# Altium schematic symbol library texas.SCHLIB: 169 symbols (part 4 of 5)
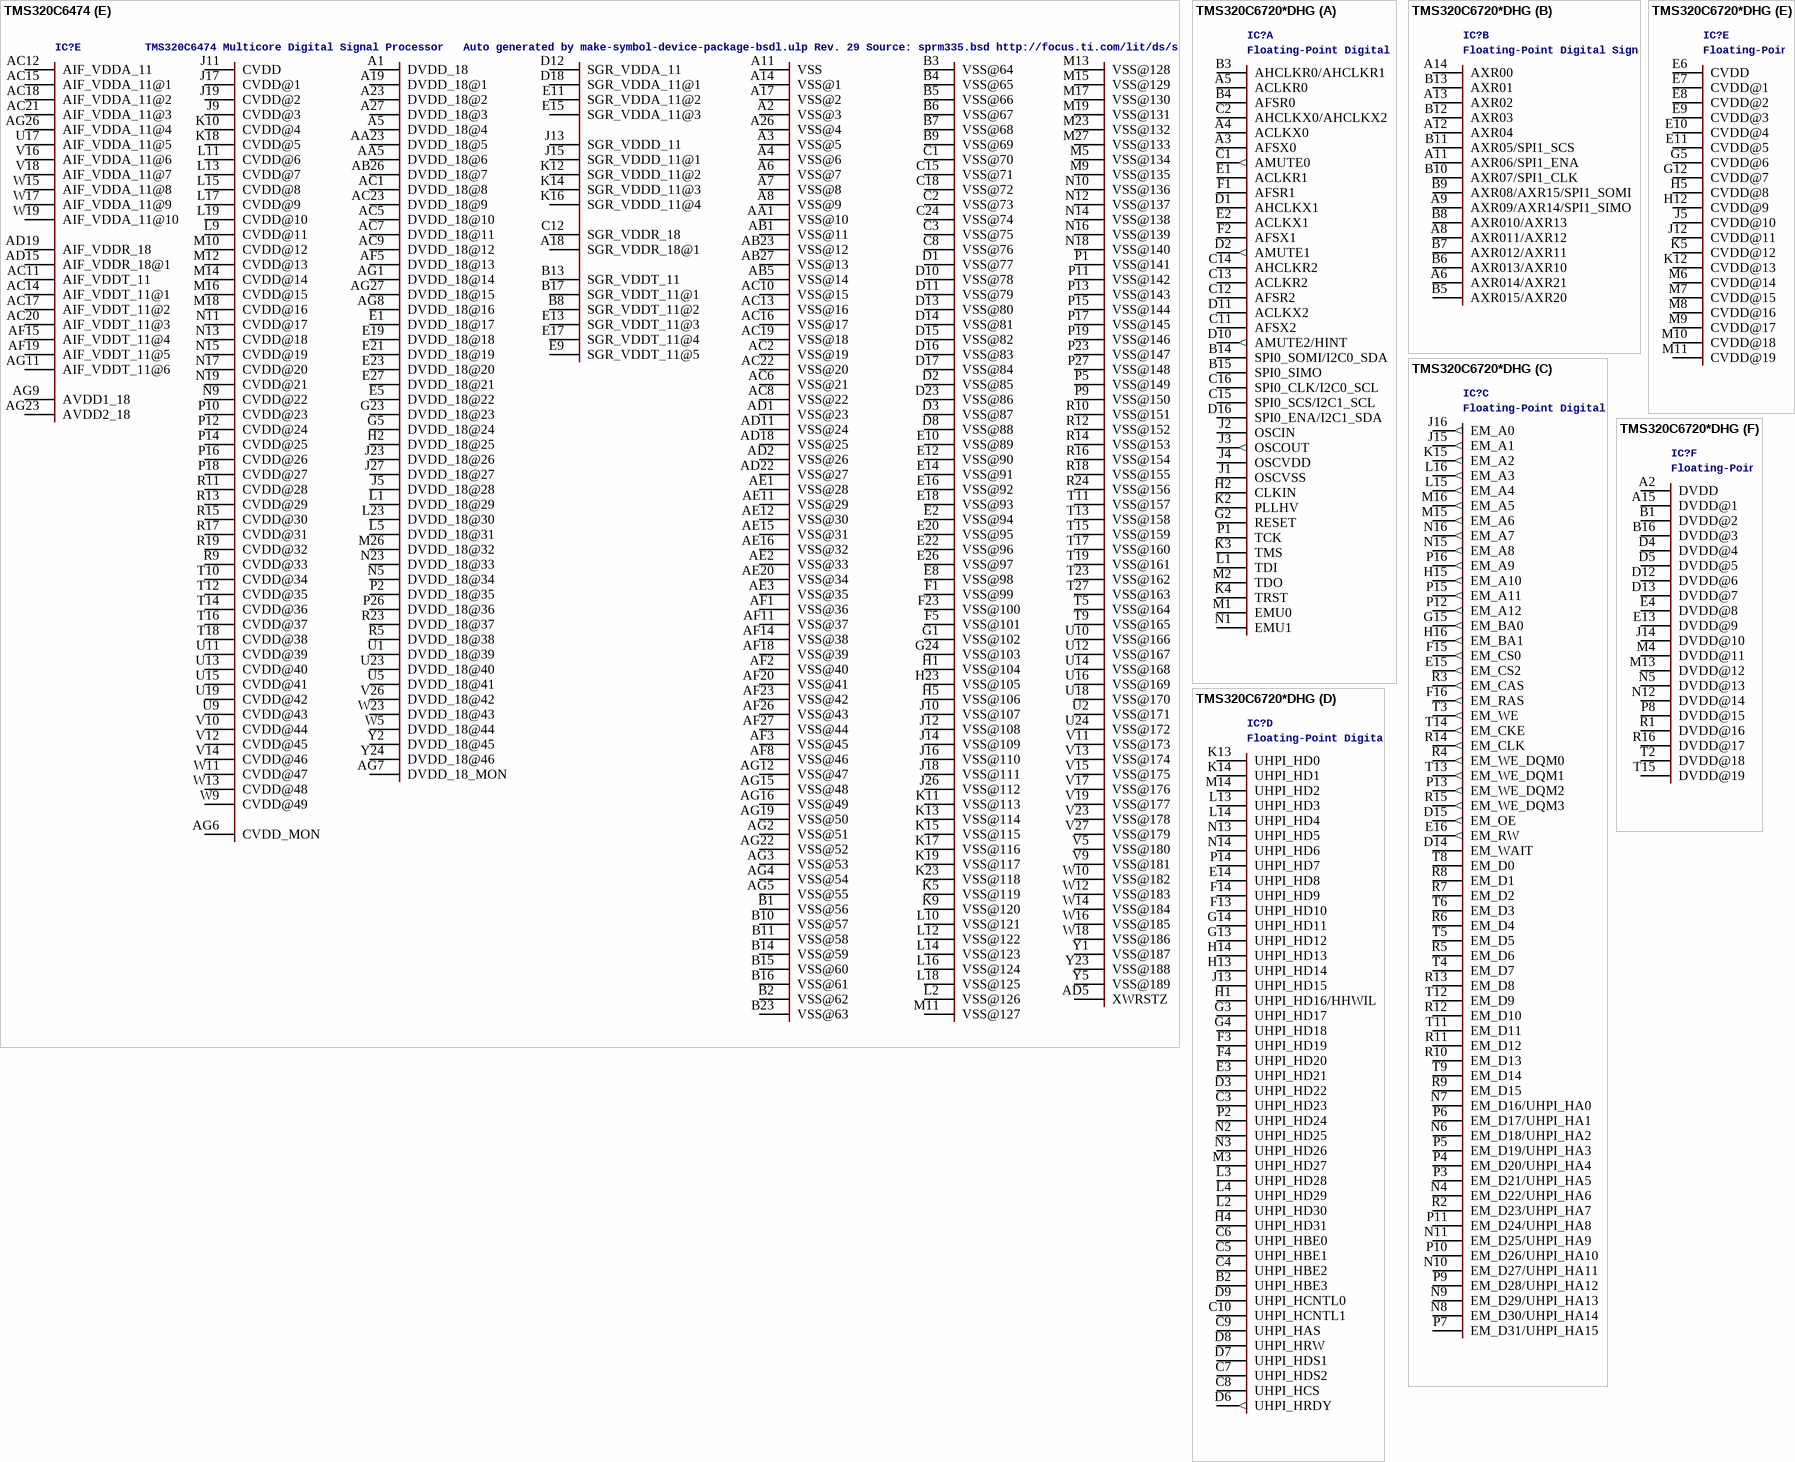
[diagram p30: symbols TMS320C6474 to TMS320C6720*DHG]

## TMS320C6474
designator IC?, comment TMS320C6474 Multicore Digital Signal Processor   Auto generated by make-symbol-device-package-bsdl.ulp Rev. 29 Source: sprm335.bsd http://focus.ti.com/lit/ds/symlink/tms320c6474.pdf Connect-List generated from TMS320C6474.DEV Variant '' with connect-device-split-symbol-03.ulp
OC_FARNELL: 1791956; OC_NEWARK: unknown
footprint ZUN_SPBGA-N561
part A pins: AD12 AIFTXP5, AD13 AIFTXN5, AD16 AIFTXP3, AD17 AIFTXN3, AD20 AIFTXP1, AD21 AIFTXN1, AE6 ALTFSYNCPULSE, AE13 AIFRXP4, AE14 AIFRXN4, AE17 AIFRXN3, AE18 AIFRXP3, AE21 AIFTXN0, AE22 AIFTXP0, AF6 ALTFSYNCCLK, AF9 ALTCORECLKP, AF10 ALTCORECLKN, AF12 AIFRXN5, AF13 AIFRXP5, AF16 AIFTXN2, AF17 AIFTXP2, AF21 AIFRXP0, AF22 AIFRXN0, AG13 AIFTXN4, AG14 AIFTXP4, AG17 AIFRXP2, AG18 AIFRXN2, AG20 AIFRXN1, AG21 AIFRXP1
part B pins: A20 DR0, A24 CLKR1, A25 CLKS1, AA24 DDRD07, AA25 DDRD06, AA26 DDRD05, AA27 DDRD04, AB24 DDRRCVENOUT0, AB25 DDRRCVENIN0, AC24 DDRD12, AC25 DDRD10, AC26 DDRD09, AC27 DDRD08, AD23 DDRREFCLKN, AD24 DDRREFCLKP, AD25 DDRDQS1N, AD26 DDRDQS1P, AD27 DDRD11, AE23 DDRSLRATE, AE24 DDRDQM1, AE25 DDRD15, AE26 DDRD13, AE27 DDRD14, AF7 CORECLKSEL, B20 CLKR0, B22 DX1, B24 DDRDQM2, B25 DDRD16, B26 DDRD18, B27 DDRD20, C20 CLKX0, C22 CLKX1, C25 DDRDQS2N, C26 DDRDQS2P, C27 DDRD23, D19 DX0, D20 CLKS0, D21 DR1, D24 DDRD19, D25 DDRD17, D26 DDRD21, D27 DDRD22, E24 DDRRCVENIN1, E25 DDRRCVENOUT1, F24 DDRD24, F25 DDRD25, F26 DDRD26, F27 DDRD27, G25 DDRDQS3P, G26 DDRDQS3N, G27 DDRD28, H24 DDRDQM3, H25 DDRD29, H26 DDRD30, H27 DDRD31, J24 DDRCLKOUTN1, J25 DDRCLKOUTP1, K24 DDRODT, K25 DDRA00, K26 DDRA08, K27 DDRA13, L24 DDRCEZ, L25 DDRA04, L26 DDRA06, L27 DDRA11, M24 DDRRASZ, M25 DDRA02, N25 DDRA01, N26 DDRCASZ, N27 DDRA05, P24 DDRWEZ, P25 DDRA10, R25 DDRBA1, R26 DDRA03, R27 DDRA09, T24 DDRCKE, T25 DDRBA0, U25 DDRBA2, U26 DDRA07, U27 DDRA12, V24 DDRCLKOUTN0, V25 DDRCLKOUTP0, W24 DDRDQM0, W25 DDRD01, W26 DDRD03, W27 DDRD00, Y25 DDRDQS0N, Y26 DDRDQS0P, Y27 DDRD02
part C pins: A21 FSX0, A22 FSX1, AA2 GP09, AA3 GP10, AA4 GP14, AB2 GP13, AB3 GP12, AB4 GP11, AC3 GP15, AD7 FSYNCCLKP, AD8 FSYNCCLKN, AD9 FRAMEBURSTP, AD10 FRAMEBURSTN, B19 MDIO, B21 FSR0, C19 MDCLK, C21 FSR1, J1 NMI2, J2 NMI1, J4 NMI0, K2 EMU14, L3 EMU12, L4 EMU17, M1 EMU05, M2 EMU04, M3 EMU18, M4 EMU08, N1 EMU03, N2 EMU09, N3 EMU02, N4 EMU06, P3 EMU16, P4 EMU13, R1 EMU10, R2 EMU01, R3 EMU07, R4 EMU00, T1 EMU15, T2 EMU11, T3 GP00, T4 GP04, U3 GP03, U4 GP01, V1 GP02, V2 GP05, V3 GP06, Y3 GP07, Y4 GP08
part D pins: A9 RIORXN0, A10 RIORXP0, A12 RIORXP1, A13 RIORXN1, A15 SGMIITXP, A16 SGMIITXN, AC4 TRTCLK, AD3 TRT, AD4 SMFRAMECLK, AD6 SYSCLKOUT, AD14 RSV02, AE4 RSV23, AE5 PORZ, AE7 RSV06, AE8 RSV07, AE9 SYSCLKP, AE10 SYSCLKN, AE19 RSV01, AF4 RESETSTATZ, AF24 RSV08, AF25 RSV09, AG10 RSV04, AG24 RSV05, AG25 RSV24, B12 RSV17, B18 RSV18, C4 TIMI1, C5 RSV28, C6 RSV20, C7 RSV16, C9 RIOSGMIICLKP, C10 RIOTXP0, C11 RIOTXN0, C13 RIOTXN1, C14 RIOTXP1, C16 SGMIIRXN, C17 SGMIIRXP, C23 RSV26, D4 SDA, D5 RSV27, D6 RSV19, D7 RSV15, D9 RIOSGMIICLKN, D22 RSV25, E3 TIMI0, E4 SCL, E6 RSV21, E7 RSV22, F2 TIMO0, F3 RSV14, F4 TIMO1, G2 VCNTL1, G3 VCNTL0, G4 RSV13, H3 VCNTL3, H4 VCNTL2, J3 RSV29, K1 RSV12, K3 RSV11, K4 RSV10, N24 RSV03, T26 VREFSSTL, V4 TDI, W1 TMS, W2 TRSTZ, W3 TDO, W4 TCK
part E pins: A1 DVDD_18, A2 VSS@3, A3 VSS@5, A4 VSS@6, A5 DVDD_18@4, A6 VSS@7, A7 VSS@8, A8 VSS@9, A11 VSS, A14 VSS@1, A17 VSS@2, A18 SGR_VDDR_18@1, A19 DVDD_18@1, A23 DVDD_18@2, A26 VSS@4, A27 DVDD_18@3, AA1 VSS@10, AA5 DVDD_18@6, AA23 DVDD_18@5, AB1 VSS@11, AB5 VSS@14, AB23 VSS@12, AB26 DVDD_18@7, AB27 VSS@13, AC1 DVDD_18@8, AC2 VSS@19, AC5 DVDD_18@10, AC6 VSS@21, AC7 DVDD_18@11, AC8 VSS@22, AC9 DVDD_18@12, AC10 VSS@15, AC11 AIF_VDDT_11, AC12 AIF_VDDA_11, AC13 VSS@16, AC14 AIF_VDDT_11@1, AC15 AIF_VDDA_11@1, AC16 VSS@17, AC17 AIF_VDDT_11@2, AC18 AIF_VDDA_11@2, AC19 VSS@18, AC20 AIF_VDDT_11@3, AC21 AIF_VDDA_11@3, AC22 VSS@20, AC23 DVDD_18@9, AD1 VSS@23, AD2 VSS@26, AD5 XWRSTZ, AD11 VSS@24, AD15 AIF_VDDR_18@1, AD18 VSS@25, AD19 AIF_VDDR_18, AD22 VSS@27, AE1 VSS@28, AE2 VSS@33, AE3 VSS@35, AE11 VSS@29, AE12 VSS@30, AE15 VSS@31, AE16 VSS@32, AE20 VSS@34, AF1 VSS@36, AF2 VSS@40, AF3 VSS@45, AF5 DVDD_18@13, AF8 VSS@46, AF11 VSS@37, AF14 VSS@38, AF15 AIF_VDDT_11@4, AF18 VSS@39, AF19 AIF_VDDT_11@5, AF20 VSS@41, AF23 VSS@42, AF26 VSS@43, AF27 VSS@44, AG1 DVDD_18@14, AG2 VSS@51, AG3 VSS@53, AG4 VSS@54, AG5 VSS@55, AG6 CVDD_MON, AG7 DVDD_18_MON, AG8 DVDD_18@16, AG9 AVDD1_18, AG11 AIF_VDDT_11@6, AG12 VSS@47, AG15 VSS@48, AG16 VSS@49, AG19 VSS@50, AG22 VSS@52, AG23 AVDD2_18, AG26 AIF_VDDA_11@4, AG27 DVDD_18@15, B1 VSS@56, B2 VSS@62, B3 VSS@64, B4 VSS@65, B5 VSS@66, B6 VSS@67, B7 VSS@68, B8 SGR_VDDT_11@2, B9 VSS@69, B10 VSS@57, B11 VSS@58, B13 SGR_VDDT_11, B14 VSS@59, B15 VSS@60, B16 VSS@61, B17 SGR_VDDT_11@1, B23 VSS@63, C1 VSS@70, C2 VSS@73, C3 VSS@75, C8 VSS@76, C12 SGR_VDDR_18, C15 VSS@71, C18 VSS@72, C24 VSS@74, D1 VSS@77, D2 VSS@85, D3 VSS@87, D8 VSS@88, D10 VSS@78, D11 VSS@79, D12 SGR_VDDA_11, D13 VSS@80, D14 VSS@81, D15 VSS@82, D16 VSS@83, D17 VSS@84, D18 SGR_VDDA_11@1, D23 VSS@86, E1 DVDD_18@17, E2 VSS@94, E5 DVDD_18@22, E8 VSS@98, E9 SGR_VDDT_11@5, E10 VSS@89, E11 SGR_VDDA_11@2, E12 VSS@90, E13 SGR_VDDT_11@3, E14 VSS@91, E15 SGR_VDDA_11@3, E16 VSS@92, E17 SGR_VDDT_11@4, E18 VSS@93, E19 DVDD_18@18, E20 VSS@95, E21 DVDD_18@19, E22 VSS@96, E23 DVDD_18@20, E26 VSS@97, E27 DVDD_18@21, F1 VSS@99, F5 VSS@101, F23 VSS@100, G1 VSS@102, G5 DVDD_18@24, G23 DVDD_18@23, G24 VSS@103, H1 VSS@104, H2 DVDD_18@25, H5 VSS@106, H23 VSS@105, J5 DVDD_18@28, J9 CVDD@3, J10 VSS@107, J11 CVDD, J12 VSS@108, J13 SGR_VDDD_11, J14 VSS@109, J15 SGR_VDDD_11@1, J16 VSS@110, J17 CVDD@1, J18 VSS@111, J19 CVDD@2, J23 DVDD_18@26, J26 VSS@112, J27 DVDD_18@27, K5 VSS@119, K9 VSS@120, K10 CVDD@4, K11 VSS@113, K12 SGR_VDDD_11@2, K13 VSS@114, K14 SGR_VDDD_11@3, K15 VSS@115, K16 SGR_VDDD_11@4, K17 VSS@116, K18 CVDD@5, K19 VSS@117, K23 VSS@118, L1 DVDD_18@29, L2 VSS@126, L5 DVDD_18@31, L9 CVDD@11, L10 VSS@121, L11 CVDD@6, L12 VSS@122, L13 CVDD@7, L14 VSS@123, L15 CVDD@8, L16 VSS@124, L17 CVDD@9, L18 VSS@125, L19 CVDD@10, L23 DVDD_18@30, M5 VSS@134, M9 VSS@135, M10 CVDD@12, M11 VSS@127, M12 CVDD@13, M13 VSS@128, M14 CVDD@14, M15 VSS@129, M16 CVDD@15, M17 VSS@130, M18 CVDD@16, M19 VSS@131, M23 VSS@132, M26 DVDD_18@32, M27 VSS@133, N5 DVDD_18@34, N9 CVDD@22, N10 VSS@136, N11 CVDD@17, N12 VSS@137, N13 CVDD@18, N14 VSS@138, N15 CVDD@19, N16 VSS@139, N17 CVDD@20, N18 VSS@140, N19 CVDD@21, N23 DVDD_18@33, P1 VSS@141, P2 DVDD_18@35, P5 VSS@149, P9 VSS@150, P10 CVDD@23, P11 VSS@142, P12 CVDD@24, P13 VSS@143, P14 CVDD@25, P15 VSS@144, P16 CVDD@26, P17 VSS@145, P18 CVDD@27, P19 VSS@146, P23 VSS@147, P26 DVDD_18@36, P27 VSS@148, R5 DVDD_18@38, R9 CVDD@33, R10 VSS@151, R11 CVDD@28, R12 VSS@152, R13 CVDD@29, R14 VSS@153, R15 CVDD@30, R16 VSS@154, R17 CVDD@31, R18 VSS@155, R19 CVDD@32, R23 DVDD_18@37, R24 VSS@156, T5 VSS@164, T9 VSS@165, T10 CVDD@34, T11 VSS@157, T12 CVDD@35, T13 VSS@158, T14 CVDD@36, T15 VSS@159, T16 CVDD@37, T17 VSS@160, T18 CVDD@38, T19 VSS@161, T23 VSS@162, T27 VSS@163, U1 DVDD_18@39, U2 VSS@171, U5 DVDD_18@41, U9 CVDD@43, U10 VSS@166, U11 CVDD@39, U12 VSS@167, U13 CVDD@40, U14 VSS@168, U15 CVDD@41, U16 VSS@169, U17 AIF_VDDA_11@5, U18 VSS@170, U19 CVDD@42, U23 DVDD_18@40, U24 VSS@172, V5 VSS@180, V9 VSS@181, V10 CVDD@44, V11 VSS@173, V12 CVDD@45, V13 VSS@174, V14 CVDD@46, V15 VSS@175, V16 AIF_VDDA_11@6, V17 VSS@176, V18 AIF_VDDA_11@7, V19 VSS@177, V23 VSS@178, V26 DVDD_18@42, V27 VSS@179, W5 DVDD_18@44, W9 CVDD@49, W10 VSS@182, W11 CVDD@47, W12 VSS@183, W13 CVDD@48, W14 VSS@184, W15 AIF_VDDA_11@8, W16 VSS@185, W17 AIF_VDDA_11@9, W18 VSS@186, W19 AIF_VDDA_11@10, W23 DVDD_18@43, Y1 VSS@187, Y2 DVDD_18@45, Y5 VSS@189, Y23 VSS@188, Y24 DVDD_18@46

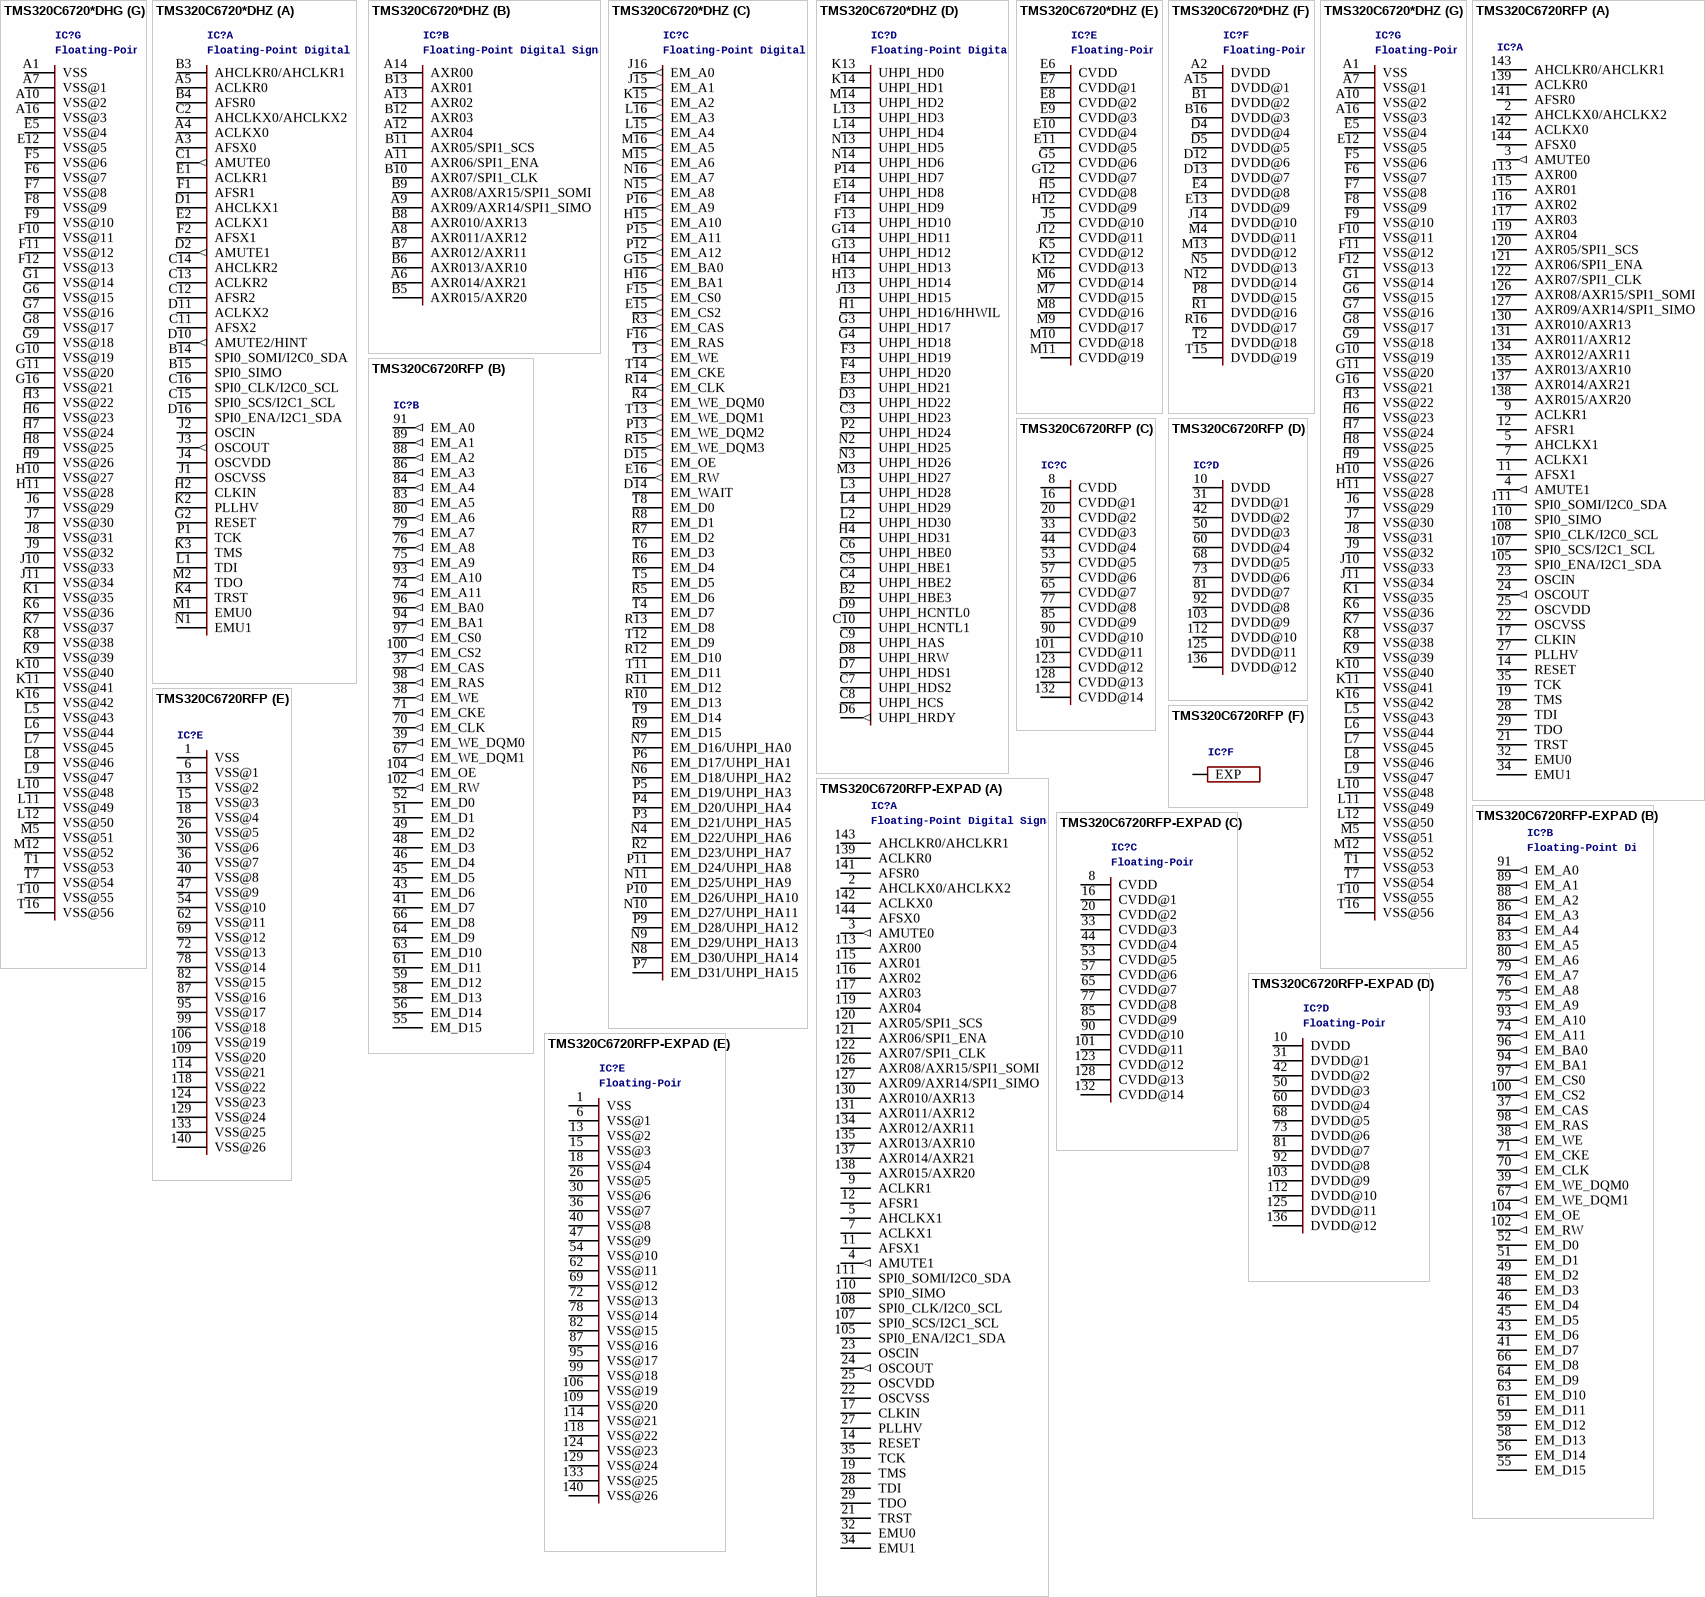
[diagram p22: symbols TMS320C6720*DHG to TMS320C6720RFP-EXPAD]

## TMS320C6720*DHG
designator IC?, comment Floating-Point Digital Signal Processors   TMS320C6727B, TMS320C6726B, TMS320C6722B, TMS320C6720 Auto generated by make-symbol-device-package-bsdl.ulp Rev. 29 Source: http://focus.ti.com/lit/ds/symlink/tms320c6720.pdf
OC_FARNELL: unknown; OC_NEWARK: unknown
footprint GDH_S-PBGA-N256
part A pins: A3 AFSX0, A4 ACLKX0, A5 ACLKR0, B3 AHCLKR0/AHCLKR1, B4 AFSR0, B14 SPI0_SOMI/I2C0_SDA, B15 SPI0_SIMO, C1 AMUTE0 (out), C2 AHCLKX0/AHCLKX2, C11 AFSX2, C12 AFSR2, C13 ACLKR2, C14 AHCLKR2, C15 SPI0_SCS/I2C1_SCL, C16 SPI0_CLK/I2C0_SCL, D1 AHCLKX1, D2 AMUTE1 (out), D10 AMUTE2/HINT (out), D11 ACLKX2, D16 SPI0_ENA/I2C1_SDA, E1 ACLKR1, E2 ACLKX1, F1 AFSR1, F2 AFSX1, G2 RESET, H2 CLKIN, J1 OSCVSS (power), J2 OSCIN, J3 OSCOUT (out), J4 OSCVDD (power), K2 PLLHV (power), K3 TMS, K4 TRST, L1 TDI, M1 EMU0, M2 TDO (hiz), N1 EMU1, P1 TCK
part B pins: A6 AXR014/AXR21, A8 AXR011/AXR12, A9 AXR09/AXR14/SPI1_SIMO, A11 AXR06/SPI1_ENA, A12 AXR04, A13 AXR02, A14 AXR00, B5 AXR015/AXR20, B6 AXR013/AXR10, B7 AXR012/AXR11, B8 AXR010/AXR13, B9 AXR08/AXR15/SPI1_SOMI, B10 AXR07/SPI1_CLK, B11 AXR05/SPI1_SCS, B12 AXR03, B13 AXR01
part C pins: D14 EM_WAIT, D15 EM_OE (out), E15 EM_CS2 (out), E16 EM_RW (out), F15 EM_CS0 (out), F16 EM_RAS (out), G15 EM_BA0 (out), H15 EM_A10 (out), H16 EM_BA1 (out), J15 EM_A1 (out), J16 EM_A0 (out), K15 EM_A2 (out), L15 EM_A4 (out), L16 EM_A3 (out), M15 EM_A6 (out), M16 EM_A5 (out), N4 EM_D22/UHPI_HA6, N6 EM_D18/UHPI_HA2, N7 EM_D16/UHPI_HA0, N8 EM_D30/UHPI_HA14, N9 EM_D29/UHPI_HA13, N10 EM_D27/UHPI_HA11, N11 EM_D25/UHPI_HA9, N15 EM_A8 (out), N16 EM_A7 (out), P3 EM_D21/UHPI_HA5, P4 EM_D20/UHPI_HA4, P5 EM_D19/UHPI_HA3, P6 EM_D17/UHPI_HA1, P7 EM_D31/UHPI_HA15, P9 EM_D28/UHPI_HA12, P10 EM_D26/UHPI_HA10, P11 EM_D24/UHPI_HA8, P12 EM_A12 (out), P13 EM_WE_DQM2 (out), P15 EM_A11 (out), P16 EM_A9 (out), R2 EM_D23/UHPI_HA7, R3 EM_CAS (out), R4 EM_WE_DQM0 (out), R5 EM_D6, R6 EM_D4, R7 EM_D2, R8 EM_D1, R9 EM_D15, R10 EM_D13, R11 EM_D12, R12 EM_D10, R13 EM_D8, R14 EM_CLK (out), R15 EM_WE_DQM3 (out), T3 EM_WE (out), T4 EM_D7, T5 EM_D5, T6 EM_D3, T8 EM_D0, T9 EM_D14, T11 EM_D11, T12 EM_D9, T13 EM_WE_DQM1 (out), T14 EM_CKE (out)
part D pins: B2 UHPI_HBE3, C3 UHPI_HD23, C4 UHPI_HBE2, C5 UHPI_HBE1, C6 UHPI_HBE0, C7 UHPI_HDS2, C8 UHPI_HCS, C9 UHPI_HAS, C10 UHPI_HCNTL1, D3 UHPI_HD22, D6 UHPI_HRDY (out), D7 UHPI_HDS1, D8 UHPI_HRW, D9 UHPI_HCNTL0, E3 UHPI_HD21, E14 UHPI_HD8, F3 UHPI_HD19, F4 UHPI_HD20, F13 UHPI_HD10, F14 UHPI_HD9, G3 UHPI_HD17, G4 UHPI_HD18, G13 UHPI_HD12, G14 UHPI_HD11, H1 UHPI_HD16/HHWIL, H4 UHPI_HD31, H13 UHPI_HD14, H14 UHPI_HD13, J13 UHPI_HD15, K13 UHPI_HD0, K14 UHPI_HD1, L2 UHPI_HD30, L3 UHPI_HD28, L4 UHPI_HD29, L13 UHPI_HD3, L14 UHPI_HD4, M3 UHPI_HD27, M14 UHPI_HD2, N2 UHPI_HD25, N3 UHPI_HD26, N13 UHPI_HD5, N14 UHPI_HD6, P2 UHPI_HD24, P14 UHPI_HD7
part E pins: E6 CVDD (power), E7 CVDD@1 (power), E8 CVDD@2 (power), E9 CVDD@3 (power), E10 CVDD@4 (power), E11 CVDD@5 (power), G5 CVDD@6 (power), G12 CVDD@7 (power), H5 CVDD@8 (power), H12 CVDD@9 (power), J5 CVDD@10 (power), J12 CVDD@11 (power), K5 CVDD@12 (power), K12 CVDD@13 (power), M6 CVDD@14 (power), M7 CVDD@15 (power), M8 CVDD@16 (power), M9 CVDD@17 (power), M10 CVDD@18 (power), M11 CVDD@19 (power)
part F pins: A2 DVDD (power), A15 DVDD@1 (power), B1 DVDD@2 (power), B16 DVDD@3 (power), D4 DVDD@4 (power), D5 DVDD@5 (power), D12 DVDD@6 (power), D13 DVDD@7 (power), E4 DVDD@8 (power), E13 DVDD@9 (power), J14 DVDD@10 (power), M4 DVDD@11 (power), M13 DVDD@12 (power), N5 DVDD@13 (power), N12 DVDD@14 (power), P8 DVDD@15 (power), R1 DVDD@16 (power), R16 DVDD@17 (power), T2 DVDD@18 (power), T15 DVDD@19 (power)
part G pins: A1 VSS (power), A7 VSS@1 (power), A10 VSS@2 (power), A16 VSS@3 (power), E5 VSS@4 (power), E12 VSS@5 (power), F5 VSS@6 (power), F6 VSS@7 (power), F7 VSS@8 (power), F8 VSS@9 (power), F9 VSS@10 (power), F10 VSS@11 (power), F11 VSS@12 (power), F12 VSS@13 (power), G1 VSS@14 (power), G6 VSS@15 (power), G7 VSS@16 (power), G8 VSS@17 (power), G9 VSS@18 (power), G10 VSS@19 (power), G11 VSS@20 (power), G16 VSS@21 (power), H3 VSS@22 (power), H6 VSS@23 (power), H7 VSS@24 (power), H8 VSS@25 (power), H9 VSS@26 (power), H10 VSS@27 (power), H11 VSS@28 (power), J6 VSS@29 (power), J7 VSS@30 (power), J8 VSS@31 (power), J9 VSS@32 (power), J10 VSS@33 (power), J11 VSS@34 (power), K1 VSS@35 (power), K6 VSS@36 (power), K7 VSS@37 (power), K8 VSS@38 (power), K9 VSS@39 (power), K10 VSS@40 (power), K11 VSS@41 (power), K16 VSS@42 (power), L5 VSS@43 (power), L6 VSS@44 (power), L7 VSS@45 (power), L8 VSS@46 (power), L9 VSS@47 (power), L10 VSS@48 (power), L11 VSS@49 (power), L12 VSS@50 (power), M5 VSS@51 (power), M12 VSS@52 (power), T1 VSS@53 (power), T7 VSS@54 (power), T10 VSS@55 (power), T16 VSS@56 (power)

## TMS320C6720*DHZ
designator IC?, comment Floating-Point Digital Signal Processors   TMS320C6727B, TMS320C6726B, TMS320C6722B, TMS320C6720 Auto generated by make-symbol-device-package-bsdl.ulp Rev. 29 Source: http://focus.ti.com/lit/ds/symlink/tms320c6720.pdf
OC_FARNELL: unknown; OC_NEWARK: unknown
footprint ZDH_S-PBGA-N256
part A pins: A3 AFSX0, A4 ACLKX0, A5 ACLKR0, B3 AHCLKR0/AHCLKR1, B4 AFSR0, B14 SPI0_SOMI/I2C0_SDA, B15 SPI0_SIMO, C1 AMUTE0 (out), C2 AHCLKX0/AHCLKX2, C11 AFSX2, C12 AFSR2, C13 ACLKR2, C14 AHCLKR2, C15 SPI0_SCS/I2C1_SCL, C16 SPI0_CLK/I2C0_SCL, D1 AHCLKX1, D2 AMUTE1 (out), D10 AMUTE2/HINT (out), D11 ACLKX2, D16 SPI0_ENA/I2C1_SDA, E1 ACLKR1, E2 ACLKX1, F1 AFSR1, F2 AFSX1, G2 RESET, H2 CLKIN, J1 OSCVSS (power), J2 OSCIN, J3 OSCOUT (out), J4 OSCVDD (power), K2 PLLHV (power), K3 TMS, K4 TRST, L1 TDI, M1 EMU0, M2 TDO (hiz), N1 EMU1, P1 TCK
part B pins: A6 AXR014/AXR21, A8 AXR011/AXR12, A9 AXR09/AXR14/SPI1_SIMO, A11 AXR06/SPI1_ENA, A12 AXR04, A13 AXR02, A14 AXR00, B5 AXR015/AXR20, B6 AXR013/AXR10, B7 AXR012/AXR11, B8 AXR010/AXR13, B9 AXR08/AXR15/SPI1_SOMI, B10 AXR07/SPI1_CLK, B11 AXR05/SPI1_SCS, B12 AXR03, B13 AXR01
part C pins: D14 EM_WAIT, D15 EM_OE (out), E15 EM_CS2 (out), E16 EM_RW (out), F15 EM_CS0 (out), F16 EM_RAS (out), G15 EM_BA0 (out), H15 EM_A10 (out), H16 EM_BA1 (out), J15 EM_A1 (out), J16 EM_A0 (out), K15 EM_A2 (out), L15 EM_A4 (out), L16 EM_A3 (out), M15 EM_A6 (out), M16 EM_A5 (out), N4 EM_D22/UHPI_HA6, N6 EM_D18/UHPI_HA2, N7 EM_D16/UHPI_HA0, N8 EM_D30/UHPI_HA14, N9 EM_D29/UHPI_HA13, N10 EM_D27/UHPI_HA11, N11 EM_D25/UHPI_HA9, N15 EM_A8 (out), N16 EM_A7 (out), P3 EM_D21/UHPI_HA5, P4 EM_D20/UHPI_HA4, P5 EM_D19/UHPI_HA3, P6 EM_D17/UHPI_HA1, P7 EM_D31/UHPI_HA15, P9 EM_D28/UHPI_HA12, P10 EM_D26/UHPI_HA10, P11 EM_D24/UHPI_HA8, P12 EM_A12 (out), P13 EM_WE_DQM2 (out), P15 EM_A11 (out), P16 EM_A9 (out), R2 EM_D23/UHPI_HA7, R3 EM_CAS (out), R4 EM_WE_DQM0 (out), R5 EM_D6, R6 EM_D4, R7 EM_D2, R8 EM_D1, R9 EM_D15, R10 EM_D13, R11 EM_D12, R12 EM_D10, R13 EM_D8, R14 EM_CLK (out), R15 EM_WE_DQM3 (out), T3 EM_WE (out), T4 EM_D7, T5 EM_D5, T6 EM_D3, T8 EM_D0, T9 EM_D14, T11 EM_D11, T12 EM_D9, T13 EM_WE_DQM1 (out), T14 EM_CKE (out)
part D pins: B2 UHPI_HBE3, C3 UHPI_HD23, C4 UHPI_HBE2, C5 UHPI_HBE1, C6 UHPI_HBE0, C7 UHPI_HDS2, C8 UHPI_HCS, C9 UHPI_HAS, C10 UHPI_HCNTL1, D3 UHPI_HD22, D6 UHPI_HRDY (out), D7 UHPI_HDS1, D8 UHPI_HRW, D9 UHPI_HCNTL0, E3 UHPI_HD21, E14 UHPI_HD8, F3 UHPI_HD19, F4 UHPI_HD20, F13 UHPI_HD10, F14 UHPI_HD9, G3 UHPI_HD17, G4 UHPI_HD18, G13 UHPI_HD12, G14 UHPI_HD11, H1 UHPI_HD16/HHWIL, H4 UHPI_HD31, H13 UHPI_HD14, H14 UHPI_HD13, J13 UHPI_HD15, K13 UHPI_HD0, K14 UHPI_HD1, L2 UHPI_HD30, L3 UHPI_HD28, L4 UHPI_HD29, L13 UHPI_HD3, L14 UHPI_HD4, M3 UHPI_HD27, M14 UHPI_HD2, N2 UHPI_HD25, N3 UHPI_HD26, N13 UHPI_HD5, N14 UHPI_HD6, P2 UHPI_HD24, P14 UHPI_HD7
part E pins: E6 CVDD (power), E7 CVDD@1 (power), E8 CVDD@2 (power), E9 CVDD@3 (power), E10 CVDD@4 (power), E11 CVDD@5 (power), G5 CVDD@6 (power), G12 CVDD@7 (power), H5 CVDD@8 (power), H12 CVDD@9 (power), J5 CVDD@10 (power), J12 CVDD@11 (power), K5 CVDD@12 (power), K12 CVDD@13 (power), M6 CVDD@14 (power), M7 CVDD@15 (power), M8 CVDD@16 (power), M9 CVDD@17 (power), M10 CVDD@18 (power), M11 CVDD@19 (power)
part F pins: A2 DVDD (power), A15 DVDD@1 (power), B1 DVDD@2 (power), B16 DVDD@3 (power), D4 DVDD@4 (power), D5 DVDD@5 (power), D12 DVDD@6 (power), D13 DVDD@7 (power), E4 DVDD@8 (power), E13 DVDD@9 (power), J14 DVDD@10 (power), M4 DVDD@11 (power), M13 DVDD@12 (power), N5 DVDD@13 (power), N12 DVDD@14 (power), P8 DVDD@15 (power), R1 DVDD@16 (power), R16 DVDD@17 (power), T2 DVDD@18 (power), T15 DVDD@19 (power)
part G pins: A1 VSS (power), A7 VSS@1 (power), A10 VSS@2 (power), A16 VSS@3 (power), E5 VSS@4 (power), E12 VSS@5 (power), F5 VSS@6 (power), F6 VSS@7 (power), F7 VSS@8 (power), F8 VSS@9 (power), F9 VSS@10 (power), F10 VSS@11 (power), F11 VSS@12 (power), F12 VSS@13 (power), G1 VSS@14 (power), G6 VSS@15 (power), G7 VSS@16 (power), G8 VSS@17 (power), G9 VSS@18 (power), G10 VSS@19 (power), G11 VSS@20 (power), G16 VSS@21 (power), H3 VSS@22 (power), H6 VSS@23 (power), H7 VSS@24 (power), H8 VSS@25 (power), H9 VSS@26 (power), H10 VSS@27 (power), H11 VSS@28 (power), J6 VSS@29 (power), J7 VSS@30 (power), J8 VSS@31 (power), J9 VSS@32 (power), J10 VSS@33 (power), J11 VSS@34 (power), K1 VSS@35 (power), K6 VSS@36 (power), K7 VSS@37 (power), K8 VSS@38 (power), K9 VSS@39 (power), K10 VSS@40 (power), K11 VSS@41 (power), K16 VSS@42 (power), L5 VSS@43 (power), L6 VSS@44 (power), L7 VSS@45 (power), L8 VSS@46 (power), L9 VSS@47 (power), L10 VSS@48 (power), L11 VSS@49 (power), L12 VSS@50 (power), M5 VSS@51 (power), M12 VSS@52 (power), T1 VSS@53 (power), T7 VSS@54 (power), T10 VSS@55 (power), T16 VSS@56 (power)

## TMS320C6720RFP
designator IC?, comment Floating-Point Digital Signal Processors   Source: http://focus.ti.com/lit/ds/symlink/tms320c6720.pdf  (value not drawn)
MPN: TMS320C6720BRFP200; OC_FARNELL: 1555284; OC_NEWARK: 30M1816
footprint RFP_S-PQFP-G144-EXP
part A pins: 2 AHCLKX0/AHCLKX2, 3 AMUTE0 (out), 4 AMUTE1 (out), 5 AHCLKX1, 7 ACLKX1, 9 ACLKR1, 11 AFSX1, 12 AFSR1, 14 RESET, 17 CLKIN, 19 TMS, 21 TRST, 22 OSCVSS (power), 23 OSCIN, 24 OSCOUT (out), 25 OSCVDD (power), 27 PLLHV (power), 28 TDI, 29 TDO (hiz), 32 EMU0, 34 EMU1, 35 TCK, 105 SPI0_ENA/I2C1_SDA, 107 SPI0_SCS/I2C1_SCL, 108 SPI0_CLK/I2C0_SCL, 110 SPI0_SIMO, 111 SPI0_SOMI/I2C0_SDA, 113 AXR00, 115 AXR01, 116 AXR02, 117 AXR03, 119 AXR04, 120 AXR05/SPI1_SCS, 121 AXR06/SPI1_ENA, 122 AXR07/SPI1_CLK, 126 AXR08/AXR15/SPI1_SOMI, 127 AXR09/AXR14/SPI1_SIMO, 130 AXR010/AXR13, 131 AXR011/AXR12, 134 AXR012/AXR11, 135 AXR013/AXR10, 137 AXR014/AXR21, 138 AXR015/AXR20, 139 ACLKR0, 141 AFSR0, 142 ACLKX0, 143 AHCLKR0/AHCLKR1, 144 AFSX0
part B pins: 37 EM_CAS (out), 38 EM_WE (out), 39 EM_WE_DQM0 (out), 41 EM_D7, 43 EM_D6, 45 EM_D5, 46 EM_D4, 48 EM_D3, 49 EM_D2, 51 EM_D1, 52 EM_D0, 55 EM_D15, 56 EM_D14, 58 EM_D13, 59 EM_D12, 61 EM_D11, 63 EM_D10, 64 EM_D9, 66 EM_D8, 67 EM_WE_DQM1 (out), 70 EM_CLK (out), 71 EM_CKE (out), 74 EM_A11 (out), 75 EM_A9 (out), 76 EM_A8 (out), 79 EM_A7 (out), 80 EM_A6 (out), 83 EM_A5 (out), 84 EM_A4 (out), 86 EM_A3 (out), 88 EM_A2 (out), 89 EM_A1 (out), 91 EM_A0 (out), 93 EM_A10 (out), 94 EM_BA1 (out), 96 EM_BA0 (out), 97 EM_CS0 (out), 98 EM_RAS (out), 100 EM_CS2 (out), 102 EM_RW (out), 104 EM_OE (out)
part C pins: 8 CVDD (power), 16 CVDD@1 (power), 20 CVDD@2 (power), 33 CVDD@3 (power), 44 CVDD@4 (power), 53 CVDD@5 (power), 57 CVDD@6 (power), 65 CVDD@7 (power), 77 CVDD@8 (power), 85 CVDD@9 (power), 90 CVDD@10 (power), 101 CVDD@11 (power), 123 CVDD@12 (power), 128 CVDD@13 (power), 132 CVDD@14 (power)
part D pins: 10 DVDD (power), 31 DVDD@1 (power), 42 DVDD@2 (power), 50 DVDD@3 (power), 60 DVDD@4 (power), 68 DVDD@5 (power), 73 DVDD@6 (power), 81 DVDD@7 (power), 92 DVDD@8 (power), 103 DVDD@9 (power), 112 DVDD@10 (power), 125 DVDD@11 (power), 136 DVDD@12 (power)
part E pins: 1 VSS (power), 6 VSS@1 (power), 13 VSS@2 (power), 15 VSS@3 (power), 18 VSS@4 (power), 26 VSS@5 (power), 30 VSS@6 (power), 36 VSS@7 (power), 40 VSS@8 (power), 47 VSS@9 (power), 54 VSS@10 (power), 62 VSS@11 (power), 69 VSS@12 (power), 72 VSS@13 (power), 78 VSS@14 (power), 82 VSS@15 (power), 87 VSS@16 (power), 95 VSS@17 (power), 99 VSS@18 (power), 106 VSS@19 (power), 109 VSS@20 (power), 114 VSS@21 (power), 118 VSS@22 (power), 124 VSS@23 (power), 129 VSS@24 (power), 133 VSS@25 (power), 140 VSS@26 (power)
part F pins: EXP

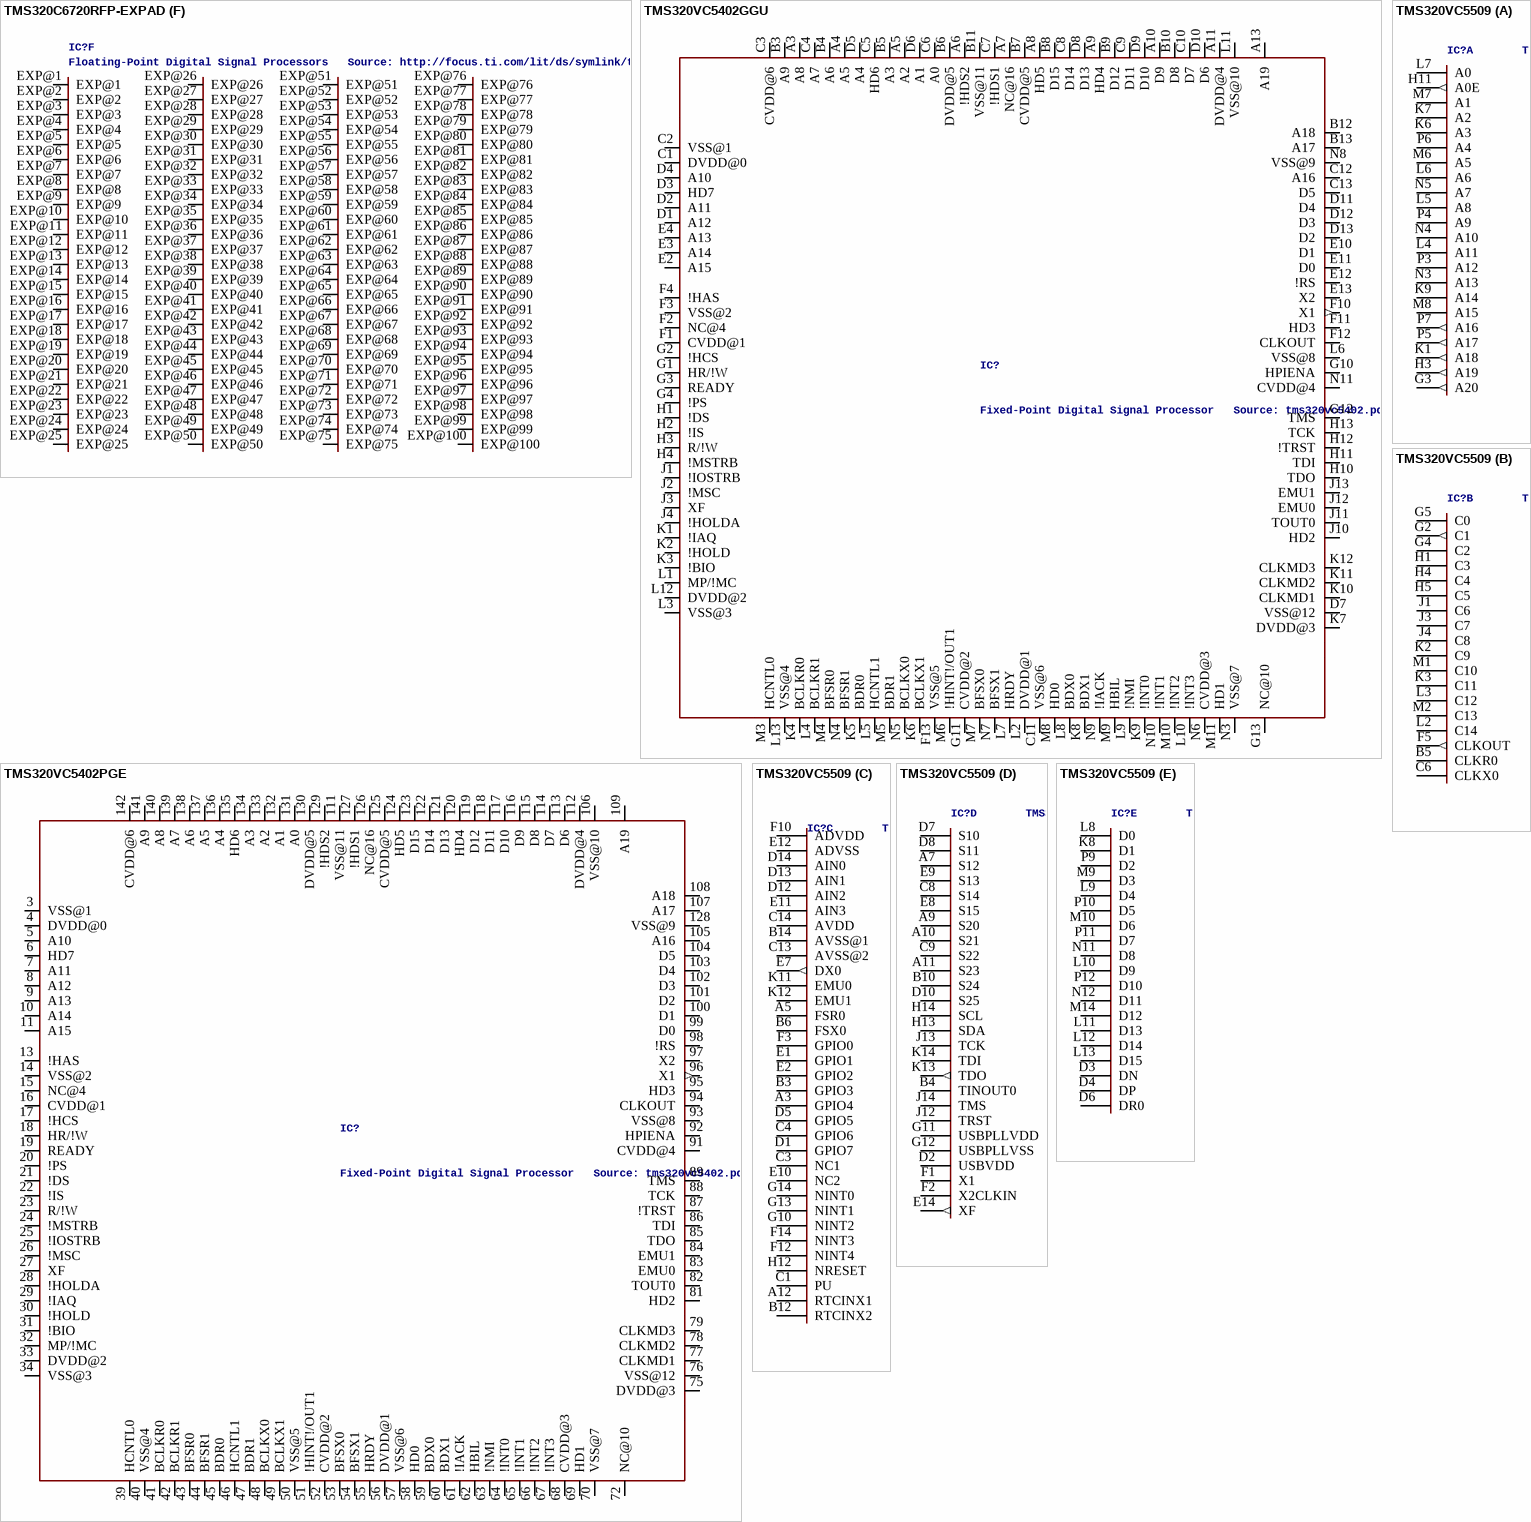
[diagram p23: symbols TMS320C6720RFP-EXPAD to TMS320VC5509]

## TMS320C6720RFP-EXPAD
designator IC?, comment Floating-Point Digital Signal Processors   Source: http://focus.ti.com/lit/ds/symlink/tms320c6720.pdf
OC_FARNELL: unknown; OC_NEWARK: unknown
footprint RFP_S-PQFP-G144-EXPAD
part A pins: 2 AHCLKX0/AHCLKX2, 3 AMUTE0 (out), 4 AMUTE1 (out), 5 AHCLKX1, 7 ACLKX1, 9 ACLKR1, 11 AFSX1, 12 AFSR1, 14 RESET, 17 CLKIN, 19 TMS, 21 TRST, 22 OSCVSS (power), 23 OSCIN, 24 OSCOUT (out), 25 OSCVDD (power), 27 PLLHV (power), 28 TDI, 29 TDO (hiz), 32 EMU0, 34 EMU1, 35 TCK, 105 SPI0_ENA/I2C1_SDA, 107 SPI0_SCS/I2C1_SCL, 108 SPI0_CLK/I2C0_SCL, 110 SPI0_SIMO, 111 SPI0_SOMI/I2C0_SDA, 113 AXR00, 115 AXR01, 116 AXR02, 117 AXR03, 119 AXR04, 120 AXR05/SPI1_SCS, 121 AXR06/SPI1_ENA, 122 AXR07/SPI1_CLK, 126 AXR08/AXR15/SPI1_SOMI, 127 AXR09/AXR14/SPI1_SIMO, 130 AXR010/AXR13, 131 AXR011/AXR12, 134 AXR012/AXR11, 135 AXR013/AXR10, 137 AXR014/AXR21, 138 AXR015/AXR20, 139 ACLKR0, 141 AFSR0, 142 ACLKX0, 143 AHCLKR0/AHCLKR1, 144 AFSX0
part B pins: 37 EM_CAS (out), 38 EM_WE (out), 39 EM_WE_DQM0 (out), 41 EM_D7, 43 EM_D6, 45 EM_D5, 46 EM_D4, 48 EM_D3, 49 EM_D2, 51 EM_D1, 52 EM_D0, 55 EM_D15, 56 EM_D14, 58 EM_D13, 59 EM_D12, 61 EM_D11, 63 EM_D10, 64 EM_D9, 66 EM_D8, 67 EM_WE_DQM1 (out), 70 EM_CLK (out), 71 EM_CKE (out), 74 EM_A11 (out), 75 EM_A9 (out), 76 EM_A8 (out), 79 EM_A7 (out), 80 EM_A6 (out), 83 EM_A5 (out), 84 EM_A4 (out), 86 EM_A3 (out), 88 EM_A2 (out), 89 EM_A1 (out), 91 EM_A0 (out), 93 EM_A10 (out), 94 EM_BA1 (out), 96 EM_BA0 (out), 97 EM_CS0 (out), 98 EM_RAS (out), 100 EM_CS2 (out), 102 EM_RW (out), 104 EM_OE (out)
part C pins: 8 CVDD (power), 16 CVDD@1 (power), 20 CVDD@2 (power), 33 CVDD@3 (power), 44 CVDD@4 (power), 53 CVDD@5 (power), 57 CVDD@6 (power), 65 CVDD@7 (power), 77 CVDD@8 (power), 85 CVDD@9 (power), 90 CVDD@10 (power), 101 CVDD@11 (power), 123 CVDD@12 (power), 128 CVDD@13 (power), 132 CVDD@14 (power)
part D pins: 10 DVDD (power), 31 DVDD@1 (power), 42 DVDD@2 (power), 50 DVDD@3 (power), 60 DVDD@4 (power), 68 DVDD@5 (power), 73 DVDD@6 (power), 81 DVDD@7 (power), 92 DVDD@8 (power), 103 DVDD@9 (power), 112 DVDD@10 (power), 125 DVDD@11 (power), 136 DVDD@12 (power)
part E pins: 1 VSS (power), 6 VSS@1 (power), 13 VSS@2 (power), 15 VSS@3 (power), 18 VSS@4 (power), 26 VSS@5 (power), 30 VSS@6 (power), 36 VSS@7 (power), 40 VSS@8 (power), 47 VSS@9 (power), 54 VSS@10 (power), 62 VSS@11 (power), 69 VSS@12 (power), 72 VSS@13 (power), 78 VSS@14 (power), 82 VSS@15 (power), 87 VSS@16 (power), 95 VSS@17 (power), 99 VSS@18 (power), 106 VSS@19 (power), 109 VSS@20 (power), 114 VSS@21 (power), 118 VSS@22 (power), 124 VSS@23 (power), 129 VSS@24 (power), 133 VSS@25 (power), 140 VSS@26 (power)
part F pins: EXP@1, EXP@2, EXP@3, EXP@4, EXP@5, EXP@6, EXP@7, EXP@8, EXP@9, EXP@10, EXP@11, EXP@12, EXP@13, EXP@14, EXP@15, EXP@16, EXP@17, EXP@18, EXP@19, EXP@20, EXP@21, EXP@22, EXP@23, EXP@24, EXP@25, EXP@26, EXP@27, EXP@28, EXP@29, EXP@30, EXP@31, EXP@32, EXP@33, EXP@34, EXP@35, EXP@36, EXP@37, EXP@38, EXP@39, EXP@40, EXP@41, EXP@42, EXP@43, EXP@44, EXP@45, EXP@46, EXP@47, EXP@48, EXP@49, EXP@50, EXP@51, EXP@52, EXP@53, EXP@54, EXP@55, EXP@56, EXP@57, EXP@58, EXP@59, EXP@60, EXP@61, EXP@62, EXP@63, EXP@64, EXP@65, EXP@66, EXP@67, EXP@68, EXP@69, EXP@70, EXP@71, EXP@72, EXP@73, EXP@74, EXP@75, EXP@76, EXP@77, EXP@78, EXP@79, EXP@80, EXP@81, EXP@82, EXP@83, EXP@84, EXP@85, EXP@86, EXP@87, EXP@88, EXP@89, EXP@90, EXP@91, EXP@92, EXP@93, EXP@94, EXP@95, EXP@96, EXP@97, EXP@98, EXP@99, EXP@100

## TMS320VC5402GGU
designator IC?, comment Fixed-Point Digital Signal Processor   Source: tms320vc5402.pdf
MPN: TMS320VC5402GGU100; MF: TEXAS INSTRUMENTS; OC_FARNELL: 1690105; OC_NEWARK: 76C9605
footprint PBGA144
pins: A1 NC@1, A2 NC@17, A3 A8 (hiz), A4 A5 (hiz), A5 A2 (hiz), A6 !HDS2, A7 NC@16, A8 HD5 (hiz), A9 HD4 (hiz), A10 D9 (hiz), A11 DVDD@4 (power), A12 NC@15, A13 A19 (hiz), B1 NC@2, B2 NC@18, B3 A9 (hiz), B4 A6 (hiz), B5 A3 (hiz), B6 DVDD@5 (power), B7 CVDD@5 (power), B8 D15 (hiz), B9 D12 (hiz), B10 D8 (hiz), B11 VSS@11 (power), B12 A18 (hiz), B13 A17 (hiz), C1 DVDD@0 (power), C2 VSS@1 (power), C3 CVDD@6 (power), C4 A7 (hiz), C5 HD6 (hiz), C6 A0 (hiz), C7 !HDS1, C8 D14 (hiz), C9 D11 (hiz), C10 D7 (hiz), C11 VSS@6 (power), C12 A16 (hiz), C13 D5 (hiz), D1 A12 (hiz), D2 A11 (hiz), D3 HD7 (hiz), D4 A10 (hiz), D5 A4 (hiz), D6 A1 (hiz), D7 VSS@12 (power), D8 D13 (hiz), D9 D10 (hiz), D10 D6 (hiz), D11 D4 (hiz), D12 D3 (hiz), D13 D2 (hiz), E1 NC@3, E2 A15 (hiz), E3 A14 (hiz), E4 A13 (hiz), E10 D1 (hiz), E11 D0 (hiz), E12 !RS, E13 X2, F1 CVDD@1 (power), F2 NC@4, F3 VSS@2 (power), F4 !HAS, F10 X1 (out), F11 HD3 (hiz), F12 CLKOUT (hiz), F13 VSS@5 (power), G1 HR/!W, G2 !HCS, G3 READY, G4 !PS (hiz), G10 HPIENA, G11 CVDD@2 (power), G12 TMS, G13 NC@10, H1 !DS (hiz), H2 !IS (hiz), H3 R/!W (hiz), H4 !MSTRB (hiz), H10 TDO (hiz), H11 TDI, H12 !TRST, H13 TCK, J1 !IOSTRB (hiz), J2 !MSC (hiz), J3 XF (hiz), J4 !HOLDA (hiz), J10 HD2 (hiz), J11 TOUT0 (hiz), J12 EMU0 (hiz), J13 EMU1 (hiz), K1 !IAQ (hiz), K2 !HOLD, K3 !BIO, K4 BCLKR0 (hiz), K5 BDR0, K6 BCLKX1 (hiz), K7 DVDD@3 (power), K8 BDX1 (hiz), K9 !INT0, K10 CLKMD1, K11 CLKMD2, K12 CLKMD3, K13 NC@9, L1 MP/!MC, L2 DVDD@1 (power), L3 VSS@3 (power), L4 BCLKR1 (hiz), L5 HCNTL1, L6 VSS@8, L7 HRDY (hiz), L8 BDX0 (hiz), L9 !NMI, L10 !INT3, L11 VSS@10 (power), L12 DVDD@2 (power), L13 VSS@4 (power), M1 NC@5, M2 NC@6, M3 HCNTL0, M4 BFSR0 (hiz), M5 BDR1, M6 !HINT!/OUT1 (hiz), M7 BFSX0 (hiz), M8 HD0 (hiz), M9 HBIL, M10 !INT2, M11 HD1 (hiz), M12 NC@14, M13 NC@8, N1 NC@11, N2 NC@12, N3 VSS@7 (power), N4 BFSR1 (hiz), N5 BCLKX0 (hiz), N6 CVDD@3 (power), N7 BFSX1 (hiz), N8 VSS@9 (power), N9 !IACK (hiz), N10 !INT1, N11 CVDD@4 (power), N12 NC@13, N13 NC@7

## TMS320VC5402PGE
designator IC?, comment Fixed-Point Digital Signal Processor   Source: tms320vc5402.pdf
MPN: TMS320VC5402PGE100; MF: TEXAS INSTRUMENTS; OC_FARNELL: 1214352; OC_NEWARK: 72K9586
footprint PQFP144
pins: 1 NC@1, 2 NC@2, 3 VSS@1 (power), 4 DVDD@0 (power), 5 A10 (hiz), 6 HD7 (hiz), 7 A11 (hiz), 8 A12 (hiz), 9 A13 (hiz), 10 A14 (hiz), 11 A15 (hiz), 12 NC@3, 13 !HAS, 14 VSS@2 (power), 15 NC@4, 16 CVDD@1 (power), 17 !HCS, 18 HR/!W, 19 READY, 20 !PS (hiz), 21 !DS (hiz), 22 !IS (hiz), 23 R/!W (hiz), 24 !MSTRB (hiz), 25 !IOSTRB (hiz), 26 !MSC (hiz), 27 XF (hiz), 28 !HOLDA (hiz), 29 !IAQ (hiz), 30 !HOLD, 31 !BIO, 32 MP/!MC, 33 DVDD@2 (power), 34 VSS@3 (power), 35 NC@5, 36 NC@6, 37 NC@7, 38 NC@8, 39 HCNTL0, 40 VSS@4 (power), 41 BCLKR0 (hiz), 42 BCLKR1 (hiz), 43 BFSR0 (hiz), 44 BFSR1 (hiz), 45 BDR0, 46 HCNTL1, 47 BDR1, 48 BCLKX0 (hiz), 49 BCLKX1 (hiz), 50 VSS@5 (power), 51 !HINT!/OUT1 (hiz), 52 CVDD@2 (power), 53 BFSX0 (hiz), 54 BFSX1 (hiz), 55 HRDY (hiz), 56 DVDD@1 (power), 57 VSS@6 (power), 58 HD0 (hiz), 59 BDX0 (hiz), 60 BDX1 (hiz), 61 !IACK (hiz), 62 HBIL, 63 !NMI, 64 !INT0, 65 !INT1, 66 !INT2, 67 !INT3, 68 CVDD@3 (power), 69 HD1 (hiz), 70 VSS@7 (power), 71 NC@9, 72 NC@10, 73 NC@11, 74 NC@12, 75 DVDD@3 (power), 76 VSS@12 (power), 77 CLKMD1, 78 CLKMD2, 79 CLKMD3, 80 NC@13, 81 HD2 (hiz), 82 TOUT0 (hiz), 83 EMU0 (hiz), 84 EMU1 (hiz), 85 TDO (hiz), 86 TDI, 87 !TRST, 88 TCK, 89 TMS, 90 NC@14, 91 CVDD@4 (power), 92 HPIENA, 93 VSS@8, 94 CLKOUT (hiz), 95 HD3 (hiz), 96 X1 (out), 97 X2, 98 !RS, 99 D0 (hiz), 100 D1 (hiz), 101 D2 (hiz), 102 D3 (hiz), 103 D4 (hiz), 104 D5 (hiz), 105 A16 (hiz), 106 VSS@10 (power), 107 A17 (hiz), 108 A18 (hiz), 109 A19 (hiz), 110 NC@15, 111 VSS@11 (power), 112 DVDD@4 (power), 113 D6 (hiz), 114 D7 (hiz), 115 D8 (hiz), 116 D9 (hiz), 117 D10 (hiz), 118 D11 (hiz), 119 D12 (hiz), 120 HD4 (hiz), 121 D13 (hiz), 122 D14 (hiz), 123 D15 (hiz), 124 HD5 (hiz), 125 CVDD@5 (power), 126 NC@16, 127 !HDS1, 128 VSS@9 (power), 129 !HDS2, 130 DVDD@5 (power), 131 A0 (hiz), 132 A1 (hiz), 133 A2 (hiz), 134 A3 (hiz), 135 HD6 (hiz), 136 A4 (hiz), 137 A5 (hiz), 138 A6 (hiz), 139 A7 (hiz), 140 A8 (hiz), 141 A9 (hiz), 142 CVDD@6 (power), 143 NC@17, 144 NC@18

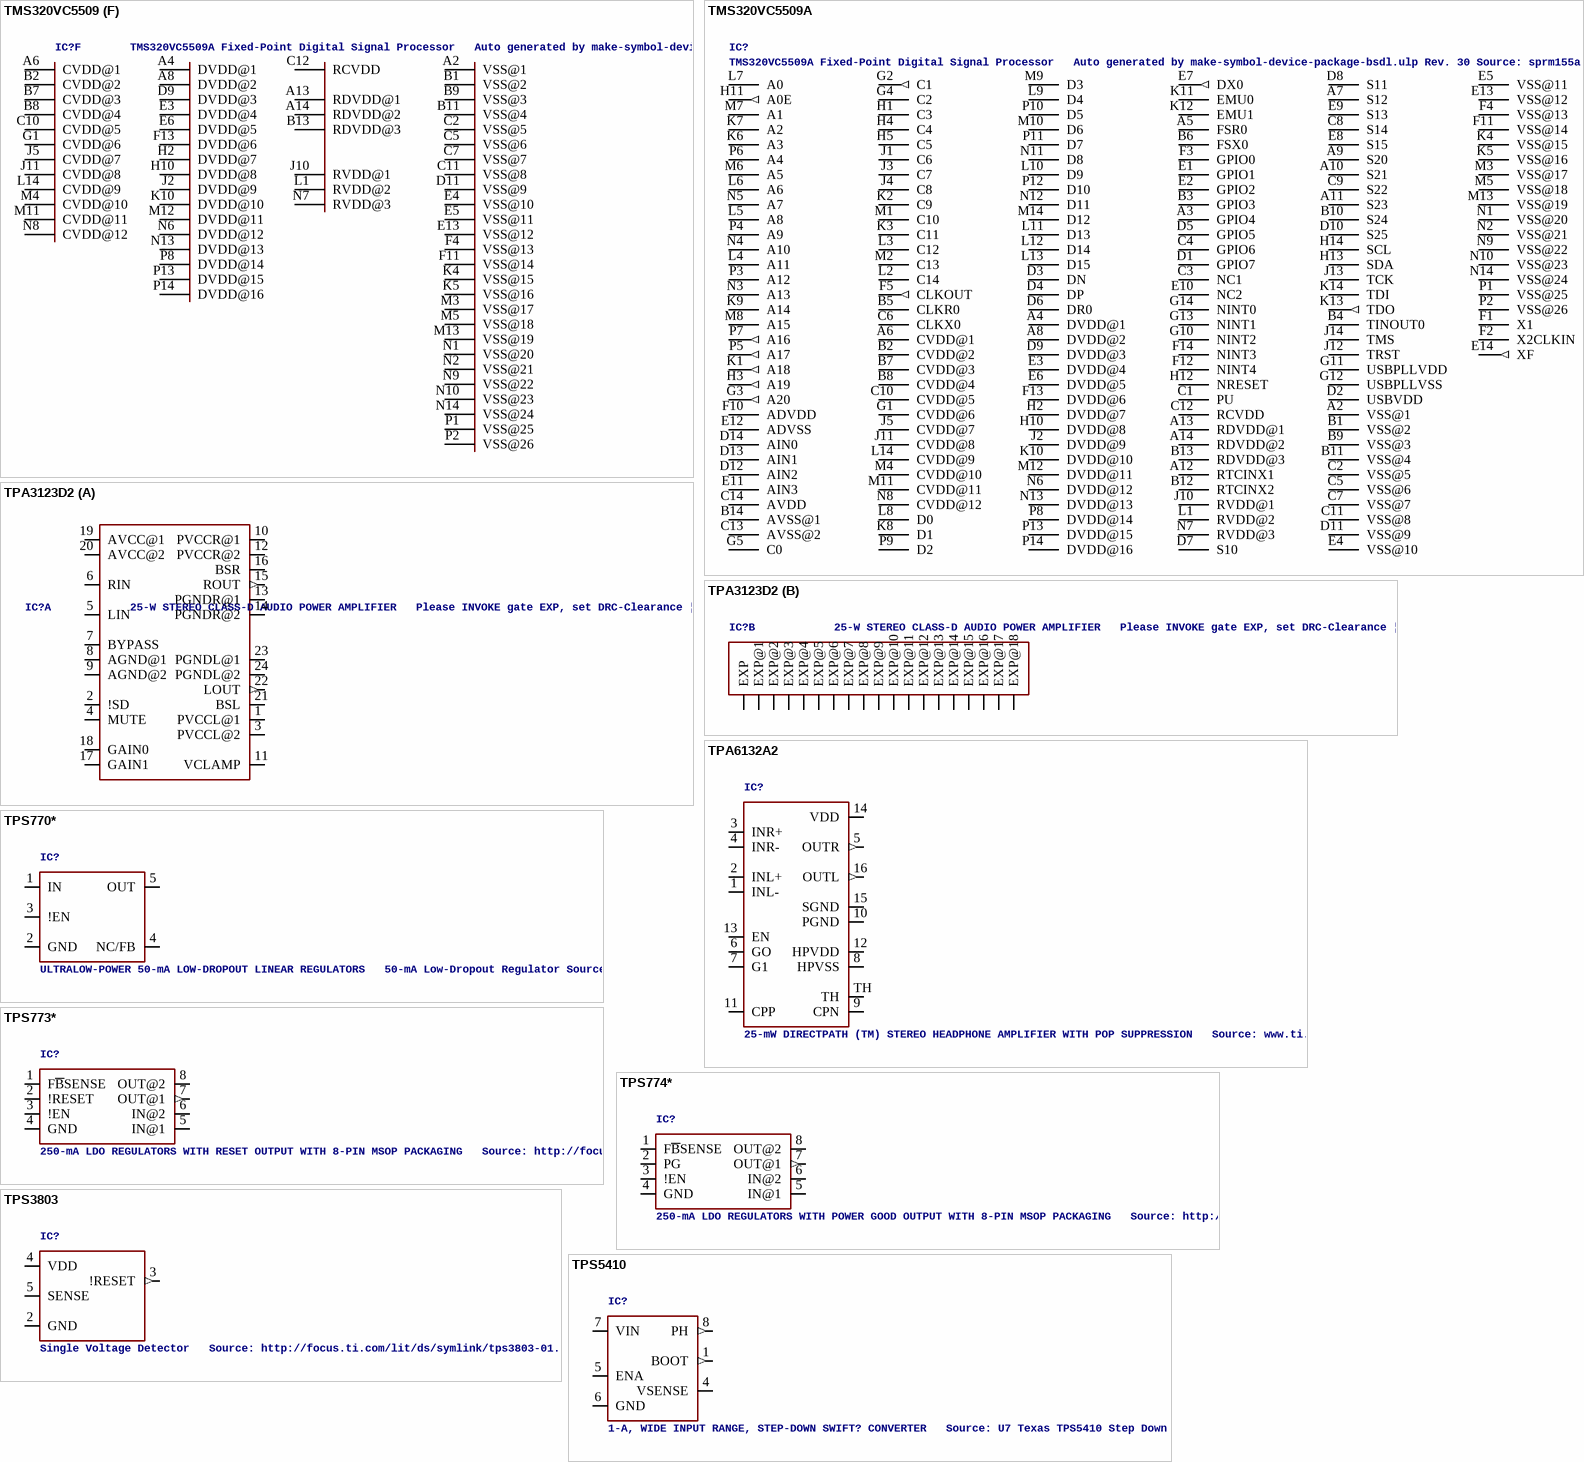
[diagram p24: symbols TMS320VC5509 to TPS5410]

## TMS320VC5509
designator IC?, comment TMS320VC5509A Fixed-Point Digital Signal Processor   Auto generated by make-symbol-device-package-bsdl.ulp Rev. 30 Source: sprm155a.bsm http://focus.ti.com/lit/ds/symlink/tms320vc5509a.pdf Connect-List generated from TMS320VC5509A.DEV Variant '' with connect-device-split-symbol.ulp
MPN: TMS320VC5509AGHH; OC_FARNELL: 1610194; OC_NEWARK: 14N9600
footprint GHH_S-PBGA-N179
part A pins: G3 A20 (out), H3 A19 (out), H11 A0E (out), K1 A18 (out), K6 A3, K7 A2, K9 A14, L4 A11, L5 A8, L6 A6, L7 A0, M6 A5, M7 A1, M8 A15, N3 A13, N4 A10, N5 A7, P3 A12, P4 A9, P5 A17 (out), P6 A4, P7 A16 (out)
part B pins: B5 CLKR0, C6 CLKX0, F5 CLKOUT (out), G2 C1 (out), G4 C2, G5 C0, H1 C3, H4 C4, H5 C5, J1 C6, J3 C7, J4 C8, K2 C9, K3 C11, L2 C14, L3 C12, M1 C10, M2 C13
part C pins: A3 GPIO4, A5 FSR0, A12 RTCINX1, B3 GPIO3, B6 FSX0, B12 RTCINX2, B14 AVSS@1 (power), C1 PU, C3 NC1, C4 GPIO6, C13 AVSS@2 (power), C14 AVDD (power), D1 GPIO7, D5 GPIO5, D12 AIN2, D13 AIN1, D14 AIN0, E1 GPIO1, E2 GPIO2, E7 DX0 (out), E10 NC2, E11 AIN3, E12 ADVSS (power), F3 GPIO0, F10 ADVDD (power), F12 NINT4, F14 NINT3, G10 NINT2, G13 NINT1, G14 NINT0, H12 NRESET, K11 EMU0, K12 EMU1
part D pins: A7 S12, A9 S20, A10 S21, A11 S23, B4 TINOUT0, B10 S24, C8 S14, C9 S22, D2 USBVDD (power), D7 S10, D8 S11, D10 S25, E8 S15, E9 S13, E14 XF (out), F1 X1, F2 X2CLKIN, G11 USBPLLVDD (power), G12 USBPLLVSS (power), H13 SDA, H14 SCL, J12 TRST, J13 TCK, J14 TMS, K13 TDO (out), K14 TDI
part E pins: D3 DN, D4 DP, D6 DR0, K8 D1, L8 D0, L9 D4, L10 D9, L11 D13, L12 D14, L13 D15, M9 D3, M10 D6, M14 D12, N11 D8, N12 D11, P9 D2, P10 D5, P11 D7, P12 D10
part F pins: A2 VSS@1 (power), A4 DVDD@1 (power), A6 CVDD@1 (power), A8 DVDD@2 (power), A13 RDVDD@1 (power), A14 RDVDD@2 (power), B1 VSS@2 (power), B2 CVDD@2 (power), B7 CVDD@3 (power), B8 CVDD@4 (power), B9 VSS@3 (power), B11 VSS@4 (power), B13 RDVDD@3 (power), C2 VSS@5 (power), C5 VSS@6 (power), C7 VSS@7 (power), C10 CVDD@5 (power), C11 VSS@8 (power), C12 RCVDD (power), D9 DVDD@3 (power), D11 VSS@9 (power), E3 DVDD@4 (power), E4 VSS@10 (power), E5 VSS@11 (power), E6 DVDD@5 (power), E13 VSS@12 (power), F4 VSS@13 (power), F11 VSS@14 (power), F13 DVDD@6 (power), G1 CVDD@6 (power), H2 DVDD@7 (power), H10 DVDD@8 (power), J2 DVDD@9 (power), J5 CVDD@7 (power), J10 RVDD@1 (power), J11 CVDD@8 (power), K4 VSS@15 (power), K5 VSS@16 (power), K10 DVDD@10 (power), L1 RVDD@2 (power), L14 CVDD@9 (power), M3 VSS@17 (power), M4 CVDD@10 (power), M5 VSS@18 (power), M11 CVDD@11 (power), M12 DVDD@11 (power), M13 VSS@19 (power), N1 VSS@20 (power), N2 VSS@21 (power), N6 DVDD@12 (power), N7 RVDD@3 (power), N8 CVDD@12 (power), N9 VSS@22 (power), N10 VSS@23 (power), N13 DVDD@13 (power), N14 VSS@24 (power), P1 VSS@25 (power), P2 VSS@26 (power), P8 DVDD@14 (power), P13 DVDD@15 (power), P14 DVDD@16 (power)

## TMS320VC5509A
designator IC?, comment TMS320VC5509A Fixed-Point Digital Signal Processor   Auto generated by make-symbol-device-package-bsdl.ulp Rev. 30 Source: sprm155a.bsm http://focus.ti.com/lit/ds/symlink/tms320vc5509a.pdf
MPN: TMS320VC5509AGHHR; MF: TEXAS INSTRUMENTS; OC_FARNELL: 1610194; OC_NEWARK: 92H7535
footprint GHH_S-PBGA-N179
pins: A2 VSS@1 (power), A3 GPIO4, A4 DVDD@1 (power), A5 FSR0, A6 CVDD@1 (power), A7 S12, A8 DVDD@2 (power), A9 S20, A10 S21, A11 S23, A12 RTCINX1, A13 RDVDD@1 (power), A14 RDVDD@2 (power), B1 VSS@2 (power), B2 CVDD@2 (power), B3 GPIO3, B4 TINOUT0, B5 CLKR0, B6 FSX0, B7 CVDD@3 (power), B8 CVDD@4 (power), B9 VSS@3 (power), B10 S24, B11 VSS@4 (power), B12 RTCINX2, B13 RDVDD@3 (power), B14 AVSS@1 (power), C1 PU, C2 VSS@5 (power), C3 NC1, C4 GPIO6, C5 VSS@6 (power), C6 CLKX0, C7 VSS@7 (power), C8 S14, C9 S22, C10 CVDD@5 (power), C11 VSS@8 (power), C12 RCVDD (power), C13 AVSS@2 (power), C14 AVDD (power), D1 GPIO7, D2 USBVDD (power), D3 DN, D4 DP, D5 GPIO5, D6 DR0, D7 S10, D8 S11, D9 DVDD@3 (power), D10 S25, D11 VSS@9 (power), D12 AIN2, D13 AIN1, D14 AIN0, E1 GPIO1, E2 GPIO2, E3 DVDD@4 (power), E4 VSS@10 (power), E5 VSS@11 (power), E6 DVDD@5 (power), E7 DX0 (out), E8 S15, E9 S13, E10 NC2, E11 AIN3, E12 ADVSS (power), E13 VSS@12 (power), E14 XF (out), F1 X1, F2 X2CLKIN, F3 GPIO0, F4 VSS@13 (power), F5 CLKOUT (out), F10 ADVDD (power), F11 VSS@14 (power), F12 NINT4, F13 DVDD@6 (power), F14 NINT3, G1 CVDD@6 (power), G2 C1 (out), G3 A20 (out), G4 C2, G5 C0, G10 NINT2, G11 USBPLLVDD (power), G12 USBPLLVSS (power), G13 NINT1, G14 NINT0, H1 C3, H2 DVDD@7 (power), H3 A19 (out), H4 C4, H5 C5, H10 DVDD@8 (power), H11 A0E (out), H12 NRESET, H13 SDA, H14 SCL, J1 C6, J2 DVDD@9 (power), J3 C7, J4 C8, J5 CVDD@7 (power), J10 RVDD@1 (power), J11 CVDD@8 (power), J12 TRST, J13 TCK, J14 TMS, K1 A18 (out), K2 C9, K3 C11, K4 VSS@15 (power), K5 VSS@16 (power), K6 A3, K7 A2, K8 D1, K9 A14, K10 DVDD@10 (power), K11 EMU0, K12 EMU1, K13 TDO (out), K14 TDI, L1 RVDD@2 (power), L2 C14, L3 C12, L4 A11, L5 A8, L6 A6, L7 A0, L8 D0, L9 D4, L10 D9, L11 D13, L12 D14, L13 D15, L14 CVDD@9 (power), M1 C10, M2 C13, M3 VSS@17 (power), M4 CVDD@10 (power), M5 VSS@18 (power), M6 A5, M7 A1, M8 A15, M9 D3, M10 D6, M11 CVDD@11 (power), M12 DVDD@11 (power), M13 VSS@19 (power), M14 D12, N1 VSS@20 (power), N2 VSS@21 (power), N3 A13, N4 A10, N5 A7, N6 DVDD@12 (power), N7 RVDD@3 (power), N8 CVDD@12 (power), N9 VSS@22 (power), N10 VSS@23 (power), N11 D8, N12 D11, N13 DVDD@13 (power), N14 VSS@24 (power), P1 VSS@25 (power), P2 VSS@26 (power), P3 A12, P4 A9, P5 A17 (out), P6 A4, P7 A16 (out), P8 DVDD@14 (power), P9 D2, P10 D5, P11 D7, P12 D10, P13 DVDD@15 (power), P14 DVDD@16 (power)

## TPA3123D2
designator IC?, comment 25-W STEREO CLASS-D AUDIO POWER AMPLIFIER   Please INVOKE gate EXP, set DRC-Clearance | Same signals | SMD - SMD = 0 Source: http://focus.ti.com/lit/ds/symlink/tpa3123d2.pdf
MPN: TPA3123D2PWP; OC_FARNELL: 1632099; OC_NEWARK: 53M3994
footprint PWP-TSSOP24
part A pins: 1 PVCCL@1, 2 !SD, 3 PVCCL@2, 4 MUTE, 5 LIN, 6 RIN, 7 BYPASS, 8 AGND@1, 9 AGND@2, 10 PVCCR@1, 11 VCLAMP, 12 PVCCR@2, 13 PGNDR@1, 14 PGNDR@2, 15 ROUT (out), 16 BSR, 17 GAIN1, 18 GAIN0, 19 AVCC@1, 20 AVCC@2, 21 BSL, 22 LOUT (out), 23 PGNDL@1, 24 PGNDL@2
part B pins: EXP, EXP@1, EXP@2, EXP@3, EXP@4, EXP@5, EXP@6, EXP@7, EXP@8, EXP@9, EXP@10, EXP@11, EXP@12, EXP@13, EXP@14, EXP@15, EXP@16, EXP@17, EXP@18

## TPA6132A2
designator IC?, comment 25-mW DIRECTPATH (TM) STEREO HEADPHONE AMPLIFIER WITH POP SUPPRESSION   Source: www.ti.com .. tpa6132a2 direct path stereo $.65.pdf
MPN: TPA6132A2RTET; OC_FARNELL: 1697167; OC_NEWARK: 46P3781
footprint QFN16
pins: 1 INL-, 2 INL+, 3 INR+, 4 INR-, 5 OUTR (out), 6 GO, 7 G1, 8 HPVSS, 9 CPN, 10 PGND (power), 11 CPP, 12 HPVDD, 13 EN, 14 VDD (power), 15 SGND (power), 16 OUTL (out), TH

## TPS770*
designator IC?, comment ULTRALOW-POWER 50-mA LOW-DROPOUT LINEAR REGULATORS   50-mA Low-Dropout Regulator Source: http://focus.ti.com/lit/ds/symlink/tps77001.pdf
MPN: TPS77001DBVT; MPN: TPS77012DBVR; MPN: TPS77015DBVT; MPN: TPS77018DBVR; MPN: TPS77025DBVR; MPN: TPS77027DBVT; MPN: TPS77028DBVR; MPN: TPS77030DBVT; MPN: TPS77033DBVT; MPN: TPS77050DBVT; MF: TEXAS INSTRUMENTS; MF: TEXAS INSTRUMENT CONNECTORS; OC_FARNELL: 8461554; OC_NEWARK: 77C1171; OC_FARNELL: 1412877; OC_NEWARK: 77C1172; OC_FARNELL: 1412879; OC_NEWARK: 77C1175; OC_FARNELL: 1575745; OC_NEWARK: 77C1176; OC_FARNELL: 1412881; OC_NEWARK: 77C1178; OC_FARNELL: 1510191; OC_NEWARK: 77C1181; OC_FARNELL: 1412882; OC_NEWARK: 77C1182; OC_FARNELL: 1207348; OC_NEWARK: 77C1185; OC_FARNELL: 8461570; OC_NEWARK: 77C1187; OC_FARNELL: 1412883; OC_NEWARK: 77C1189
footprint SOT23-DBV
pins: 1 IN, 2 GND (power), 3 !EN, 4 NC/FB, 5 OUT

## TPS773*
designator IC?, comment 250-mA LDO REGULATORS WITH RESET OUTPUT WITH 8-PIN MSOP PACKAGING   Source: http://focus.ti.com/lit/ds/symlink/tps77333.pdf
MPN: TPS77301DGK; MPN: TPS77315DGK; MPN: TPS77316DGK; MPN: TPS77318DGK; MPN: TPS77327DGK; MPN: TPS77328DGK; MPN: TPS77333DGK; MPN: TPS77350DGK; MF: TEXAS INSTRUMENT CONNECTORS; MF: TEXAS INSTRUMENTS; OC_FARNELL: 1510194; OC_NEWARK: 77C1213; OC_FARNELL: 1412890; OC_NEWARK: 77C1215; OC_FARNELL: 1412891; OC_NEWARK: 77C1217; OC_FARNELL: 1412893; OC_NEWARK: 77C1219; OC_FARNELL: unknown; OC_NEWARK: 77C1221; OC_NEWARK: 77C1223; OC_FARNELL: 1510195; OC_NEWARK: 02M1919; OC_FARNELL: 1412894; OC_NEWARK: 77C1226
footprint SOP-08
pins: 1 F~{B}SENSE, 2 !RESET, 3 !EN, 4 GND (power), 5 IN@1, 6 IN@2, 7 OUT@1 (out), 8 OUT@2

## TPS774*
designator IC?, comment 250-mA LDO REGULATORS WITH POWER GOOD OUTPUT WITH 8-PIN MSOP PACKAGING   Source: http://focus.ti.com/lit/ds/symlink/tps77333.pdf
OC_FARNELL: 1412896; OC_NEWARK: unknown
footprint DGK-R-PDSO-G8
pins: 1 F~{B}SENSE, 2 PG, 3 !EN, 4 GND (power), 5 IN@1, 6 IN@2, 7 OUT@1 (out), 8 OUT@2

## TPS3803
designator IC?, comment Single Voltage Detector   Source: http://focus.ti.com/lit/ds/symlink/tps3803-01.pdf
MPN: TPS3803-01DCKR; MF: TEXAS INSTRUMENTS; OC_FARNELL: 1234719; OC_NEWARK: 77C0392; OC_FARNELL: unknown; OC_NEWARK: unknown
footprint DCK
pins: 2 GND (power), 3 !RESET (out), 4 VDD (power), 5 SENSE

## TPS5410
designator IC?, comment 1-A, WIDE INPUT RANGE, STEP-DOWN SWIFT? CONVERTER   Source: U7 Texas TPS5410 Step Down Converter.pdf
MPN: TPS5410DR; OC_FARNELL: 1329596; OC_NEWARK: 18M3223
footprint D_R-PDSO-G08
pins: 1 BOOT (out), 4 VSENSE, 5 ENA, 6 GND (power), 7 VIN, 8 PH (out)

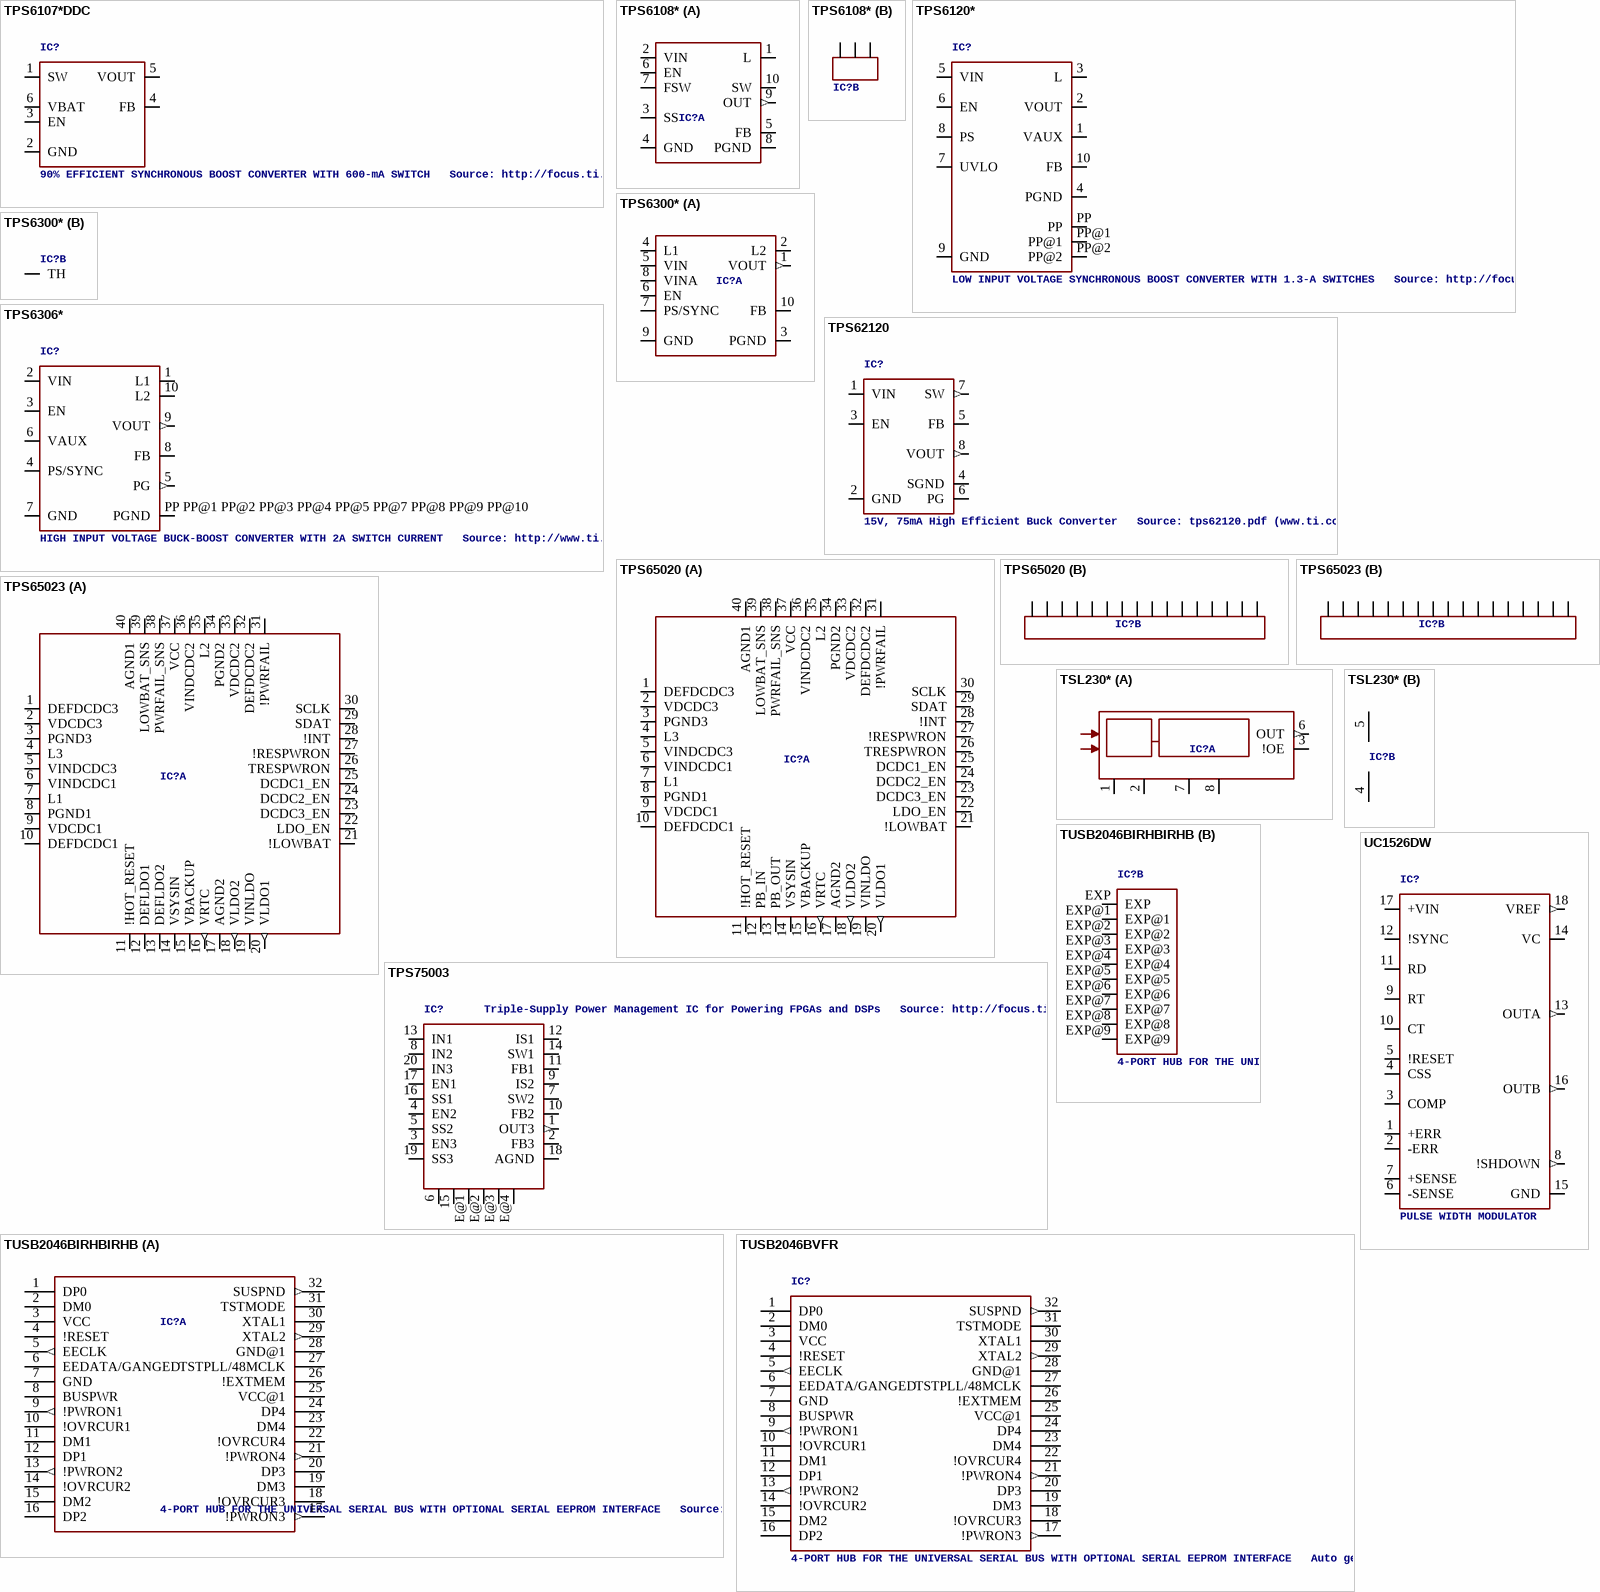
[diagram p25: symbols TPS6107*DDC to UC1526DW]

## TPS6107*DDC
designator IC?, comment 90% EFFICIENT SYNCHRONOUS BOOST CONVERTER WITH 600-mA SWITCH   Source: http://focus.ti.com/lit/ds/symlink/tps61070.pdf
MPN: TPS61070DDCR; MPN: TPS61071DDCR; MPN: TPS61072DDCR; MPN: TPS61073DDCRG4; MF: TEXAS INSTRUMENT CONNECTORS; OC_FARNELL: 1461062; OC_NEWARK: 64M3125; OC_FARNELL: 1412515; OC_NEWARK: 21J9232; OC_FARNELL: unknown; OC_NEWARK: 30M1829; OC_FARNELL: 1755459; OC_NEWARK: 52M6122
footprint TSOT23-6_DDC
pins: 1 SW, 2 GND (power), 3 EN, 4 FB, 5 VOUT, 6 VBAT

## TPS6108*
designator IC?, comment HIGH VOLTAGE DC/DC BOOST CONVERTER WITH 0.5-A/1.3-A INTEGRATED SWITCH   Source: www.ti.com .. tps61081[1].pdf  (value not drawn)
MPN: TPS61080DRCT; MPN: TPS61081DRCT; OC_FARNELL: 1412517; OC_NEWARK: 30M1831; OC_FARNELL: 1412518; OC_NEWARK: 30M1833
footprint S-PDSO-N10
part A pins: 1 L, 2 VIN, 3 SS, 4 GND (power), 5 FB, 6 EN, 7 FSW, 8 PGND, 9 OUT (out), 10 SW
part B pins: PP EXP@1, PP@1 EXP@2, PP@2 EXP@3

## TPS6120*
designator IC?, comment LOW INPUT VOLTAGE SYNCHRONOUS BOOST CONVERTER WITH 1.3-A SWITCHES   Source: http://focus.ti.com/lit/ds/symlink/tps61200.pdf
MPN: TPS61200DRCT; MPN: TPS61201DRCT; MPN: TPS61202DRCR; OC_FARNELL: 1471238; OC_NEWARK: 37M0066; OC_FARNELL: unknown; OC_NEWARK: 37M0068; OC_NEWARK: 37M0069
footprint S-PDSO-N10
pins: 1 VAUX, 2 VOUT, 3 L, 4 PGND (power), 5 VIN, 6 EN, 7 UVLO, 8 PS, 9 GND (power), 10 FB, PP (power), PP@1 (power), PP@2 (power)

## TPS6300*
designator IC?, comment HIGH EFFICIENT SINGLE INDUCTOR BUCK-BOOST CONVERTER WITH 1.8-A SWITCHES   Source: http://focus.ti.com/lit/ds/symlink/tps63001.pdf  (value not drawn)
MPN: TPS63000DRCTG4; OC_FARNELL: 1511852; OC_NEWARK: 59M7217
footprint DRC-S-PVSON-N10
part A pins: 1 VOUT (out), 2 L2, 3 PGND (power), 4 L1, 5 VIN, 6 EN, 7 PS/SYNC, 8 VINA, 9 GND (power), 10 FB
part B pins: TH

## TPS6306*
designator IC?, comment HIGH INPUT VOLTAGE BUCK-BOOST CONVERTER WITH 2A SWITCH CURRENT   Source: http://www.ti.com/lit/ds/symlink/tps63060.pdf
footprint DSC-S-PWSON-N10
pins: 1 L1, 2 VIN, 3 EN, 4 PS/SYNC, 5 PG (out), 6 VAUX (power), 7 GND, 8 FB, 9 VOUT (out), 10 L2, PP PP@1 PP@2 PP@3 PP@4 PP@5 PP@7 PP@8 PP@9 PP@10 PGND (power)

## TPS62120
designator IC?, comment 15V, 75mA High Efficient Buck Converter   Source: tps62120.pdf (www.ti.com)
footprint DCN-R-PDSO-G8
pins: 1 VIN, 2 GND (power), 3 EN, 4 SGND, 5 FB, 6 PG, 7 SW (out), 8 VOUT (out)

## TPS65020
designator IC?, comment POWER MANAGEMENT IC FOR LI-ION POWERED SYSTEMS   Source: http://focus.ti.com/lit/ds/symlink/tps65020.pdf  (value not drawn)
MPN: TPS65020RHAT; MF: TEXAS INSTRUMENT CONNECTORS; OC_FARNELL: 1412603; OC_NEWARK: 61K1903
footprint QFN40-6X6
part A pins: 1 DEFDCDC3, 2 VDCDC3, 3 PGND3, 4 L3, 5 VINDCDC3, 6 VINDCDC1, 7 L1, 8 PGND1, 9 VDCDC1, 10 DEFDCDC1, 11 !HOT_RESET, 12 PB_IN, 13 PB_OUT, 14 VSYSIN, 15 VBACKUP, 16 VRTC (out), 17 AGND2, 18 VLDO2 (out), 19 VINLDO, 20 VLDO1 (out), 21 !LOWBAT (oc), 22 LDO_EN, 23 DCDC3_EN, 24 DCDC2_EN, 25 DCDC1_EN, 26 TRESPWRON, 27 !RESPWRON (oc), 28 !INT (oc), 29 SDAT, 30 SCLK, 31 !PWRFAIL (oc), 32 DEFDCDC2, 33 VDCDC2, 34 PGND2, 35 L2, 36 VINDCDC2, 37 VCC, 38 PWRFAIL_SNS, 39 LOWBAT_SNS, 40 AGND1
part B pins: EXP@1 EXP16@1, EXP@2 EXP16@2, EXP@3 EXP16@3, EXP@4 EXP16@4, EXP@5 EXP16@5, EXP@6 EXP16@6, EXP@7 EXP16@7, EXP@8 EXP16@8, EXP@9 EXP16@9, EXP@10 EXP16@10, EXP@11 EXP16@11, EXP@12 EXP16@12, EXP@13 EXP16@13, EXP@14 EXP16@14, EXP@15 EXP16@15, EXP@16 EXP16@16

## TPS65023
designator IC?, comment POWER MANAGEMENT IC FOR LI-ION POWERED SYSTEMS   Source: http://focus.ti.com/lit/ds/symlink/tps65023.pdf  (value not drawn)
MPN: TPS65023RSBR; OC_FARNELL: 1652451; OC_NEWARK: 22M1826
footprint QFN40-5X5
part A pins: 1 DEFDCDC3, 2 VDCDC3, 3 PGND3, 4 L3, 5 VINDCDC3, 6 VINDCDC1, 7 L1, 8 PGND1, 9 VDCDC1, 10 DEFDCDC1, 11 !HOT_RESET, 12 DEFLDO1, 13 DEFLDO2, 14 VSYSIN, 15 VBACKUP, 16 VRTC (out), 17 AGND2, 18 VLDO2 (out), 19 VINLDO, 20 VLDO1 (out), 21 !LOWBAT (oc), 22 LDO_EN, 23 DCDC3_EN, 24 DCDC2_EN, 25 DCDC1_EN, 26 TRESPWRON, 27 !RESPWRON (oc), 28 !INT (oc), 29 SDAT, 30 SCLK, 31 !PWRFAIL (oc), 32 DEFDCDC2, 33 VDCDC2, 34 PGND2, 35 L2, 36 VINDCDC2, 37 VCC, 38 PWRFAIL_SNS, 39 LOWBAT_SNS, 40 AGND1
part B pins: EXP, EXP@1 EXP16@1, EXP@2 EXP16@2, EXP@3 EXP16@3, EXP@4 EXP16@4, EXP@5 EXP16@5, EXP@6 EXP16@6, EXP@7 EXP16@7, EXP@8 EXP16@8, EXP@9 EXP16@9, EXP@10 EXP16@10, EXP@11 EXP16@11, EXP@12 EXP16@12, EXP@13 EXP16@13, EXP@14 EXP16@14, EXP@15 EXP16@15, EXP@16 EXP16@16

## TPS75003
designator IC?, comment Triple-Supply Power Management IC for Powering FPGAs and DSPs   Source: http://focus.ti.com/lit/ds/symlink/tps75003.pdf
MPN: TPS75003RHLT; OC_FARNELL: 9969187; OC_NEWARK: 93K0913
footprint R-PQFP-N20
pins: 1 OUT3 (out), 2 FB3, 3 EN3, 4 EN2, 5 SS2, 6 DGND (power), 7 SW2, 8 IN2, 9 IS2, 10 FB2, 11 FB1, 12 IS1, 13 IN1, 14 SW1, 15 DGND@1 (power), 16 SS1, 17 EN1, 18 AGND (power), 19 SS3, 20 IN3, E@1 DGND@2 (power), E@2 DGND@3 (power), E@3 DGND@4 (power), E@4 DGND@5 (power)

## TSL230*
designator IC?, comment PROGRAMMABLE LIGHT TO FREQUENCY CONVERTER  (value not drawn)
MPN: TSL230RP-LF; OC_FARNELL: 1182355; OC_NEWARK: 24M8654; OC_FARNELL: unknown; OC_NEWARK: unknown
footprint DIL08-OPTO
part A pins: 1 S0, 2 S1, 3 !OE, 6 OUT (out), 7 S2, 8 S3
part B pins: 4 GND (power), 5 VCC (power)

## TUSB2046BIRHBIRHB
designator IC?, comment 4-PORT HUB FOR THE UNIVERSAL SERIAL BUS WITH OPTIONAL SERIAL EEPROM INTERFACE   Source: http://focus.ti.com/lit/ds/symlink/tusb2046b.pdf
MPN: TUSB2046BIRHBT; OC_FARNELL: 1610201; OC_NEWARK: 14N8499
footprint RHB_S-PQFP-N32
part A pins: 1 DP0, 2 DM0, 3 VCC (power), 4 !RESET, 5 EECLK (out), 6 EEDATA/GANGED, 7 GND (power), 8 BUSPWR, 9 !PWRON1 (out), 10 !OVRCUR1, 11 DM1, 12 DP1, 13 !PWRON2 (out), 14 !OVRCUR2, 15 DM2, 16 DP2, 17 !PWRON3 (out), 18 !OVRCUR3, 19 DM3, 20 DP3, 21 !PWRON4 (out), 22 !OVRCUR4, 23 DM4, 24 DP4, 25 VCC@1 (power), 26 !EXTMEM, 27 TSTPLL/48MCLK, 28 GND@1 (power), 29 XTAL2 (out), 30 XTAL1, 31 TSTMODE, 32 SUSPND (out)
part B pins: EXP, EXP@1, EXP@2, EXP@3, EXP@4, EXP@5, EXP@6, EXP@7, EXP@8, EXP@9

## TUSB2046BVFR
designator IC?, comment 4-PORT HUB FOR THE UNIVERSAL SERIAL BUS WITH OPTIONAL SERIAL EEPROM INTERFACE   Auto generated by make-symbol-device-package-bsdl.ulp Rev. 30 Source: http://focus.ti.com/lit/ds/symlink/tusb2046b.pdf
MPN: TUSB2046BVFR; MF: TEXAS INSTRUMENTS; OC_FARNELL: 1470507; OC_NEWARK: 77C1806
footprint VF_S-PQFP-G32
pins: 1 DP0, 2 DM0, 3 VCC (power), 4 !RESET, 5 EECLK (out), 6 EEDATA/GANGED, 7 GND (power), 8 BUSPWR, 9 !PWRON1 (out), 10 !OVRCUR1, 11 DM1, 12 DP1, 13 !PWRON2 (out), 14 !OVRCUR2, 15 DM2, 16 DP2, 17 !PWRON3 (out), 18 !OVRCUR3, 19 DM3, 20 DP3, 21 !PWRON4 (out), 22 !OVRCUR4, 23 DM4, 24 DP4, 25 VCC@1 (power), 26 !EXTMEM, 27 TSTPLL/48MCLK, 28 GND@1 (power), 29 XTAL2 (out), 30 XTAL1, 31 TSTMODE, 32 SUSPND (out)

## UC1526DW
designator IC?, comment PULSE WIDTH MODULATOR
OC_FARNELL: unknown; OC_NEWARK: unknown
footprint SO-18DW
pins: 1 +ERR, 2 -ERR, 3 COMP, 4 CSS, 5 !RESET, 6 -SENSE, 7 +SENSE, 8 !SHDOWN (out), 9 RT, 10 CT, 11 RD, 12 !SYNC, 13 OUTA (out), 14 VC, 15 GND (power), 16 OUTB (out), 17 +VIN, 18 VREF (out)

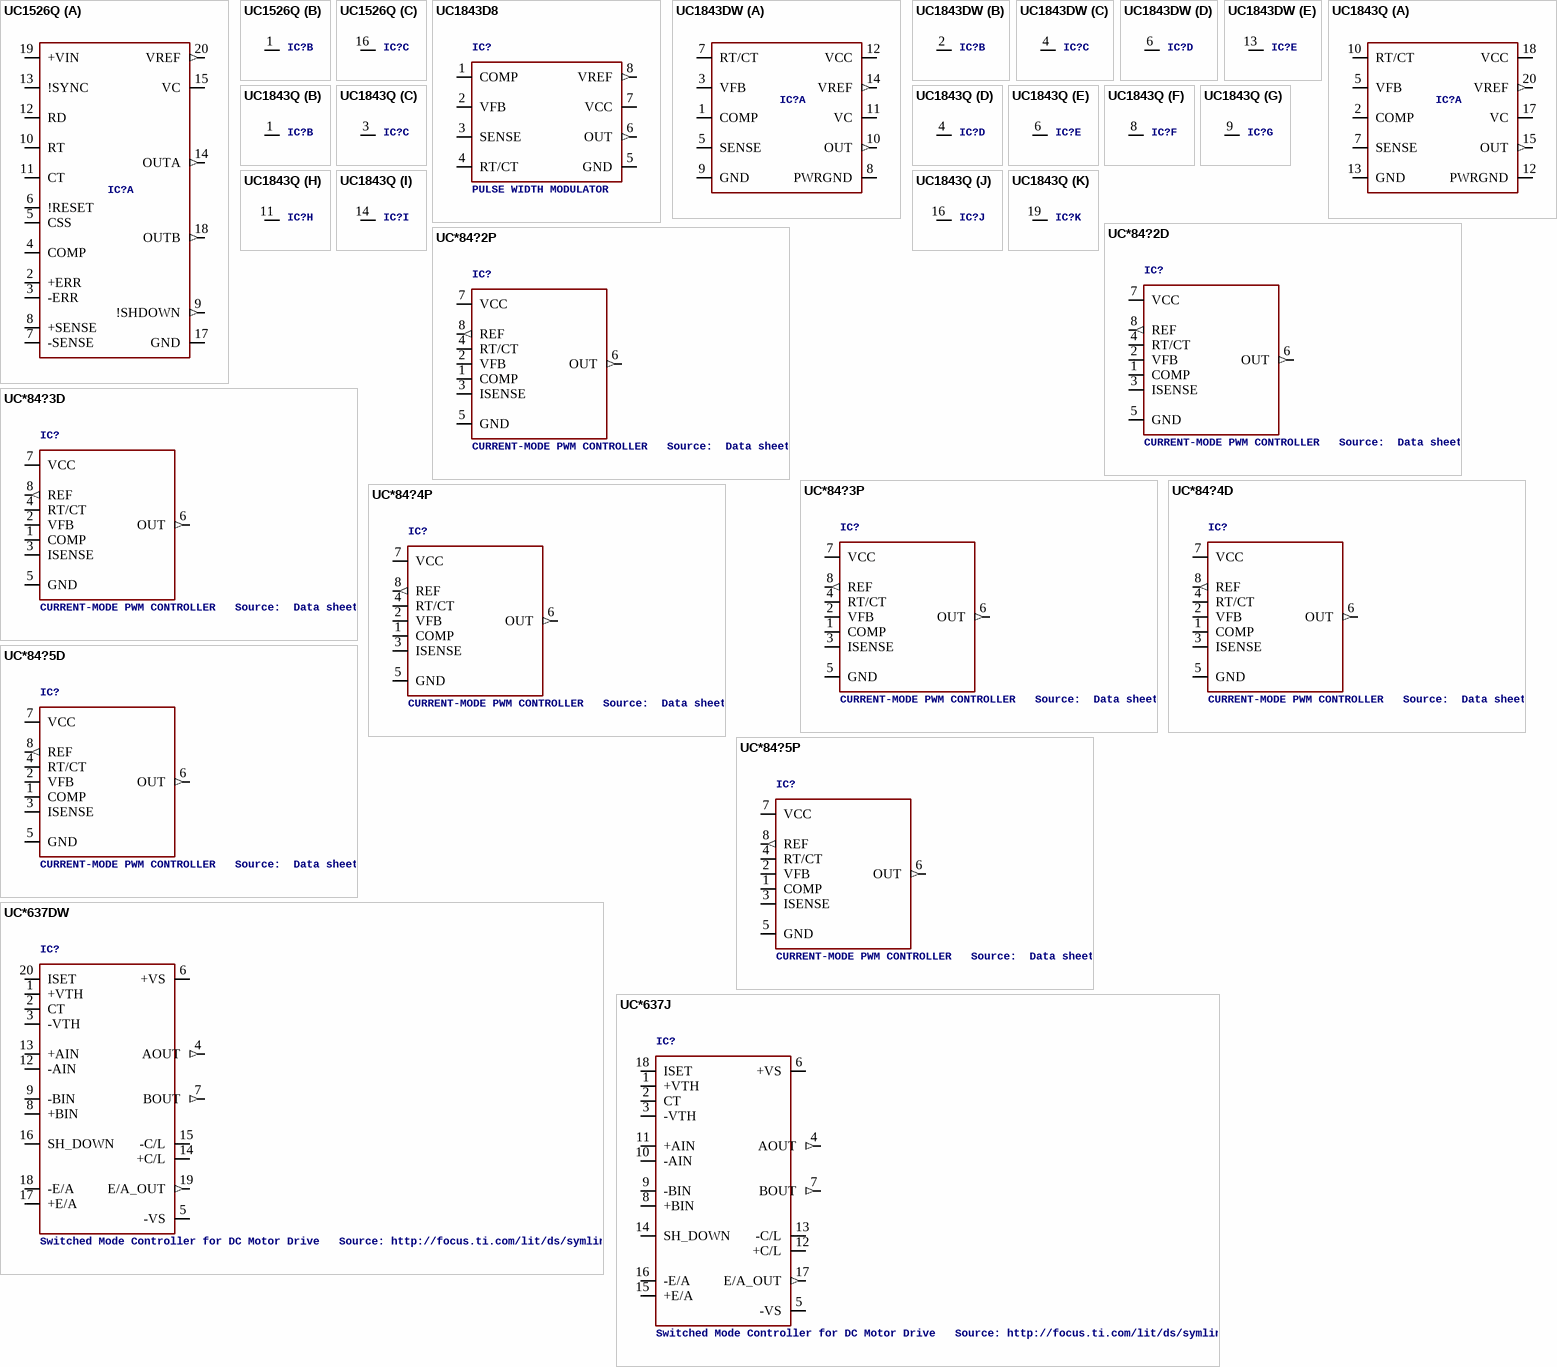
[diagram p26: symbols UC1526Q to UC*637J]

## UC1526Q
designator IC?, comment PULSE WIDTH MODULATOR  (value not drawn)
OC_FARNELL: unknown; OC_NEWARK: unknown
footprint PLCC20
part A pins: 2 +ERR, 3 -ERR, 4 COMP, 5 CSS, 6 !RESET, 7 -SENSE, 8 +SENSE, 9 !SHDOWN (out), 10 RT, 11 CT, 12 RD, 13 !SYNC, 14 OUTA (out), 15 VC, 17 GND (power), 18 OUTB (out), 19 +VIN, 20 VREF (out)
part B pins: 1 NC
part C pins: 16 NC

## UC1843D8
designator IC?, comment PULSE WIDTH MODULATOR
MPN: UC1843AMDREP; OC_FARNELL: 1755515; OC_NEWARK: 46M1388
footprint SO-08
pins: 1 COMP, 2 VFB, 3 SENSE, 4 RT/CT, 5 GND (power), 6 OUT (out), 7 VCC (power), 8 VREF (out)

## UC1843DW
designator IC?, comment PULSE WIDTH MODULATOR  (value not drawn)
OC_FARNELL: unknown; OC_NEWARK: unknown
footprint SO-14DW
part A pins: 1 COMP, 3 VFB, 5 SENSE, 7 RT/CT, 8 PWRGND (power), 9 GND (power), 10 OUT (out), 11 VC, 12 VCC (power), 14 VREF (out)
part B pins: 2 NC
part C pins: 4 NC
part D pins: 6 NC
part E pins: 13 NC

## UC1843Q
designator IC?, comment PULSE WIDTH MODULATOR  (value not drawn)
OC_FARNELL: unknown; OC_NEWARK: unknown
footprint PLCC20
part A pins: 2 COMP, 5 VFB, 7 SENSE, 10 RT/CT, 12 PWRGND (power), 13 GND (power), 15 OUT (out), 17 VC, 18 VCC (power), 20 VREF (out)
part B pins: 1 NC
part C pins: 3 NC
part D pins: 4 NC
part E pins: 6 NC
part F pins: 8 NC
part G pins: 9 NC
part H pins: 11 NC
part I pins: 14 NC
part J pins: 16 NC
part K pins: 19 NC

## UC*84?2D
designator IC?, comment CURRENT-MODE PWM CONTROLLER   Source:  Data sheet
MPN: UC2842D8TR; MPN: UC3842AD8; MF: TEXAS INSTRUMENTS; MF: UNITRODE; OC_FARNELL: 1413230; OC_FARNELL: 1101423
footprint D_R-PDSO-G08
pins: 1 COMP, 2 VFB, 3 ISENSE, 4 RT/CT, 5 GND (power), 6 OUT (out), 7 VCC (power), 8 REF (out)

## UC*84?2P
designator IC?, comment CURRENT-MODE PWM CONTROLLER   Source:  Data sheet
MPN: NTE7096; MF: NTE ELECTRONICS; OC_FARNELL: unknown; OC_FARNELL: 4531085
footprint DIL08
pins: 1 COMP, 2 VFB, 3 ISENSE, 4 RT/CT, 5 GND (power), 6 OUT (out), 7 VCC (power), 8 REF (out)

## UC*84?3D
designator IC?, comment CURRENT-MODE PWM CONTROLLER   Source:  Data sheet
MPN: UC2843D8G4; MPN: UC3843D8; MF: TEXAS INSTRUMENTS; MF: UNITRODE; OC_FARNELL: 1207369; OC_FARNELL: 1101424
footprint D_R-PDSO-G08
pins: 1 COMP, 2 VFB, 3 ISENSE, 4 RT/CT, 5 GND (power), 6 OUT (out), 7 VCC (power), 8 REF (out)

## UC*84?3P
designator IC?, comment CURRENT-MODE PWM CONTROLLER   Source:  Data sheet
OC_FARNELL: unknown
footprint DIL08
pins: 1 COMP, 2 VFB, 3 ISENSE, 4 RT/CT, 5 GND (power), 6 OUT (out), 7 VCC (power), 8 REF (out)

## UC*84?4D
designator IC?, comment CURRENT-MODE PWM CONTROLLER   Source:  Data sheet
MPN: UC3844BD1G; MF: ON SEMICONDUCTOR; OC_FARNELL: unknown; OC_FARNELL: 1211129
footprint D_R-PDSO-G08
pins: 1 COMP, 2 VFB, 3 ISENSE, 4 RT/CT, 5 GND (power), 6 OUT (out), 7 VCC (power), 8 REF (out)

## UC*84?4P
designator IC?, comment CURRENT-MODE PWM CONTROLLER   Source:  Data sheet
OC_FARNELL: unknown
footprint DIL08
pins: 1 COMP, 2 VFB, 3 ISENSE, 4 RT/CT, 5 GND (power), 6 OUT (out), 7 VCC (power), 8 REF (out)

## UC*84?5D
designator IC?, comment CURRENT-MODE PWM CONTROLLER   Source:  Data sheet
MPN: UC3845D8G4; MF: TEXAS INSTRUMENTS; OC_FARNELL: unknown; OC_FARNELL: 1219426
footprint D_R-PDSO-G08
pins: 1 COMP, 2 VFB, 3 ISENSE, 4 RT/CT, 5 GND (power), 6 OUT (out), 7 VCC (power), 8 REF (out)

## UC*84?5P
designator IC?, comment CURRENT-MODE PWM CONTROLLER   Source:  Data sheet
OC_FARNELL: unknown
footprint DIL08
pins: 1 COMP, 2 VFB, 3 ISENSE, 4 RT/CT, 5 GND (power), 6 OUT (out), 7 VCC (power), 8 REF (out)

## UC*637DW
designator IC?, comment Switched Mode Controller for DC Motor Drive   Source: http://focus.ti.com/lit/ds/symlink/uc3637.pdf
MPN: UC2637DW; MPN: UC3637DW; MF: TEXAS INSTRUMENTS; OC_FARNELL: unknown; OC_NEWARK: 77C2827; OC_FARNELL: 1212378; OC_NEWARK: 77C3168
footprint SO-20DW
pins: 1 +VTH, 2 CT, 3 -VTH, 4 AOUT (out), 5 -VS, 6 +VS, 7 BOUT (out), 8 +BIN, 9 -BIN, 12 -AIN, 13 +AIN, 14 +C/L, 15 -C/L, 16 SH_DOWN, 17 +E/A, 18 -E/A, 19 E/A_OUT (out), 20 ISET

## UC*637J
designator IC?, comment Switched Mode Controller for DC Motor Drive   Source: http://focus.ti.com/lit/ds/symlink/uc3637.pdf
OC_FARNELL: unknown; OC_NEWARK: unknown
footprint DIL18
pins: 1 +VTH, 2 CT, 3 -VTH, 4 AOUT (out), 5 -VS, 6 +VS, 7 BOUT (out), 8 +BIN, 9 -BIN, 10 -AIN, 11 +AIN, 12 +C/L, 13 -C/L, 14 SH_DOWN, 15 +E/A, 16 -E/A, 17 E/A_OUT (out), 18 ISET

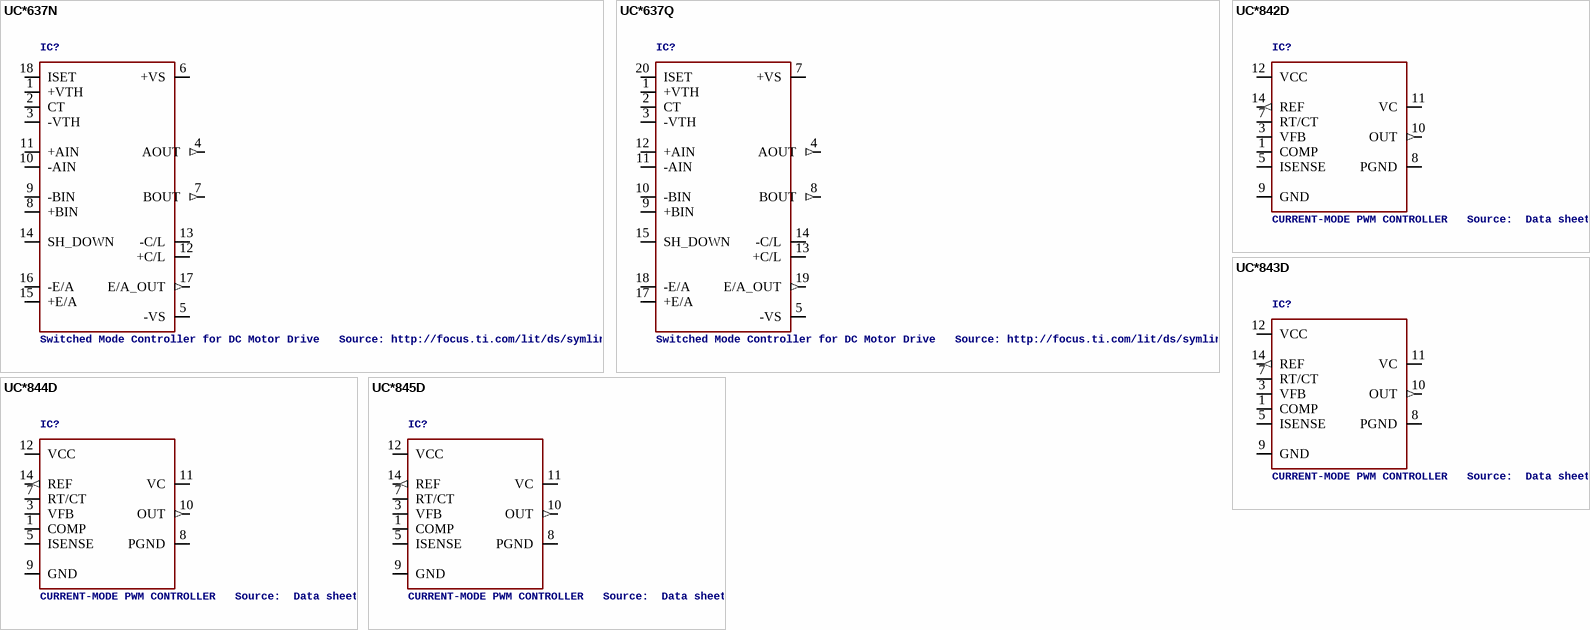
[diagram p27: symbols UC*637N to UC*845D]

## UC*637N
designator IC?, comment Switched Mode Controller for DC Motor Drive   Source: http://focus.ti.com/lit/ds/symlink/uc3637.pdf
MPN: UC2637N; MPN: UC3637N; MF: TEXAS INSTRUMENTS; OC_FARNELL: 1207367; OC_NEWARK: 77C2829; OC_FARNELL: 1107292; OC_NEWARK: 62K3473
footprint DIL18
pins: 1 +VTH, 2 CT, 3 -VTH, 4 AOUT (out), 5 -VS, 6 +VS, 7 BOUT (out), 8 +BIN, 9 -BIN, 10 -AIN, 11 +AIN, 12 +C/L, 13 -C/L, 14 SH_DOWN, 15 +E/A, 16 -E/A, 17 E/A_OUT (out), 18 ISET

## UC*637Q
designator IC?, comment Switched Mode Controller for DC Motor Drive   Source: http://focus.ti.com/lit/ds/symlink/uc3637.pdf
MPN: UC2637Q; MPN: UC3637Q; MF: TEXAS INSTRUMENT CONNECTORS; OC_FARNELL: 1510339; OC_NEWARK: 77C2830; OC_FARNELL: 1413281; OC_NEWARK: 05C3766
footprint PLCC20
pins: 1 +VTH, 2 CT, 3 -VTH, 4 AOUT (out), 5 -VS, 7 +VS, 8 BOUT (out), 9 +BIN, 10 -BIN, 11 -AIN, 12 +AIN, 13 +C/L, 14 -C/L, 15 SH_DOWN, 17 +E/A, 18 -E/A, 19 E/A_OUT (out), 20 ISET